# Altium integrated library Renesas Microcontroller H8S.IntLib: 670 symbols (part 3 of 70)
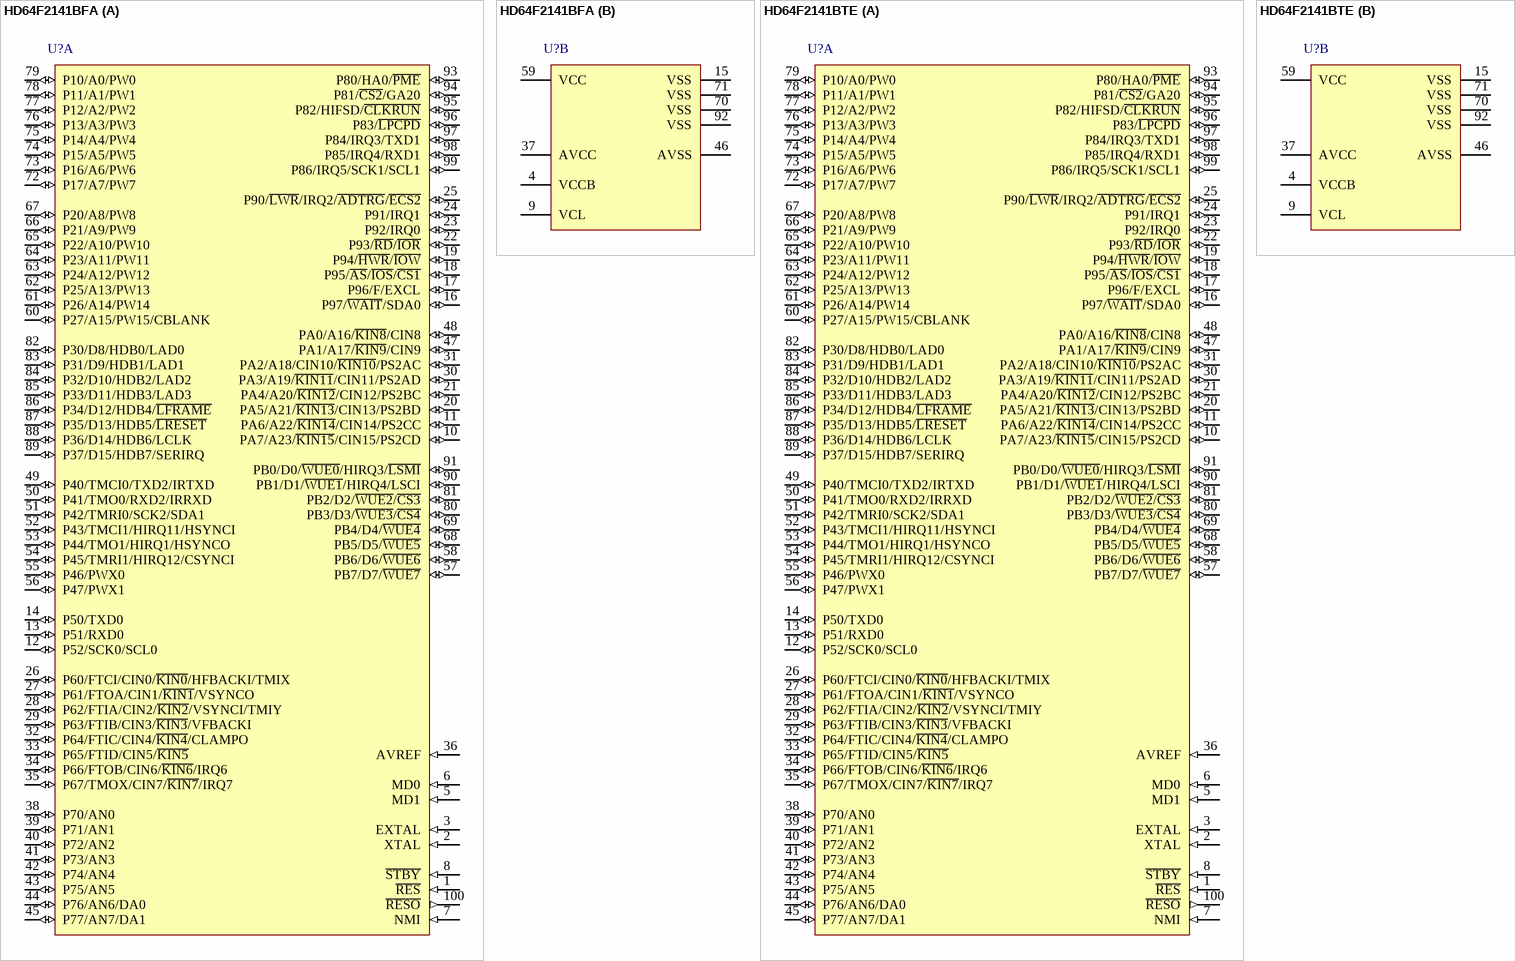
[diagram p246: symbols HD64F2141BFA to HD64F2141BTE]

## HD64F2141BTE
designator U?
Flash memory H8S/2100 Series, 2140B Group MCU, 128K ROM, 4K RAM, TFP-100B Pkg; Published: 28-Aug-2009; DatasheetVersion: Rev.3.00, Mar-2006; PackageVersion: Sep-2005; PackageReference: PTQP0100KA-A; Publisher: Altium Limited; PackageDescription: 100-Pin Plastic Thin Quad Flat Pack, 14 x 14 x 1.0 mm Body, 0.5 mm Pitch; Code_JEITA: P-TQFP100-14x14-0.50; ComponentLink1Description: Manufacturer Link; ComponentLink1URL: http://sg.renesas.com/fmwk.jsp?cnt=h8s_family_landing.jsp&fp=/products/mpumcu/h8s_family/; ComponentLink2Description: Datasheet; ComponentLink2URL: http://documentation.renesas.com/eng/products/mpumcu/rej09b0300_2140bhm.pdf; ComponentLink3Description: Packaging Specification; ComponentLink3URL: http://sg.renesas.com/media/products/common_info/package/pdf/ic/code/ptqp0100ka_a.pdf
footprint PTQP0100KA-A_N (Thin QFP, 100-Leads, Body 14x14mm, Pitch 0.5mm, IPC Medium Density)
footprint PTQP0100KA-A_L (Thin QFP, 100-Leads, Body 14x14mm, Pitch 0.5mm, IPC High Density)
footprint PTQP0100KA-A_M (Thin QFP, 100-Leads, Body 14x14mm, Pitch 0.5mm, IPC Low Density)
part A pins: 1 ~{RES} (in), 2 XTAL (in), 3 EXTAL (in), 5 MD1 (in), 6 MD0 (in), 7 NMI (in), 8 ~{STBY} (in), 10 PA7/A23/~{KIN15}/CIN15/PS2CD (io), 11 PA6/A22/~{KIN14}/CIN14/PS2CC (io), 12 P52/SCK0/SCL0 (io), 13 P51/RXD0 (io), 14 P50/TXD0 (io), 16 P97/~{WAIT}/SDA0 (io), 17 P96/F/EXCL (io), 18 P95/~{AS}/~{IOS}/~{CS1} (io), 19 P94/~{HWR}/~{IOW} (io), 20 PA5/A21/~{KIN13}/CIN13/PS2BD (io), 21 PA4/A20/~{KIN12}/CIN12/PS2BC (io), 22 P93/~{RD}/~{IOR} (io), 23 P92/IRQ0 (io), 24 P91/IRQ1 (io), 25 P90/~{LWR}/IRQ2/~{ADTRG}/~{ECS2} (io), 26 P60/FTCI/CIN0/~{KIN0}/HFBACKI/TMIX (io), 27 P61/FTOA/CIN1/~{KIN1}/VSYNCO (io), 28 P62/FTIA/CIN2/~{KIN2}/VSYNCI/TMIY (io), 29 P63/FTIB/CIN3/~{KIN3}/VFBACKI (io), 30 PA3/A19/~{KIN11}/CIN11/PS2AD (io), 31 PA2/A18/CIN10/~{KIN10}/PS2AC (io), 32 P64/FTIC/CIN4/~{KIN4}/CLAMPO (io), 33 P65/FTID/CIN5/~{KIN5} (io), 34 P66/FTOB/CIN6/~{KIN6}/IRQ6 (io), 35 P67/TMOX/CIN7/~{KIN7}/IRQ7 (io), 36 AVREF (in), 38 P70/AN0 (io), 39 P71/AN1 (io), 40 P72/AN2 (io), 41 P73/AN3 (io), 42 P74/AN4 (io), 43 P75/AN5 (io), 44 P76/AN6/DA0 (io), 45 P77/AN7/DA1 (io), 47 PA1/A17/~{KIN9}/CIN9 (io), 48 PA0/A16/~{KIN8}/CIN8 (io), 49 P40/TMCI0/TXD2/IRTXD (io), 50 P41/TMO0/RXD2/IRRXD (io), 51 P42/TMRI0/SCK2/SDA1 (io), 52 P43/TMCI1/HIRQ11/HSYNCI (io), 53 P44/TMO1/HIRQ1/HSYNCO (io), 54 P45/TMRI1/HIRQ12/CSYNCI (io), 55 P46/PWX0 (io), 56 P47/PWX1 (io), 57 PB7/D7/~{WUE7} (io), 58 PB6/D6/~{WUE6} (io), 60 P27/A15/PW15/CBLANK (io), 61 P26/A14/PW14 (io), 62 P25/A13/PW13 (io), 63 P24/A12/PW12 (io), 64 P23/A11/PW11 (io), 65 P22/A10/PW10 (io), 66 P21/A9/PW9 (io), 67 P20/A8/PW8 (io), 68 PB5/D5/~{WUE5} (io), 69 PB4/D4/~{WUE4} (io), 72 P17/A7/PW7 (io), 73 P16/A6/PW6 (io), 74 P15/A5/PW5 (io), 75 P14/A4/PW4 (io), 76 P13/A3/PW3 (io), 77 P12/A2/PW2 (io), 78 P11/A1/PW1 (io), 79 P10/A0/PW0 (io), 80 PB3/D3/~{WUE3}/~{CS4} (io), 81 PB2/D2/~{WUE2}/~{CS3} (io), 82 P30/D8/HDB0/LAD0 (io), 83 P31/D9/HDB1/LAD1 (io), 84 P32/D10/HDB2/LAD2 (io), 85 P33/D11/HDB3/LAD3 (io), 86 P34/D12/HDB4/~{LFRAME} (io), 87 P35/D13/HDB5/~{LRESET} (io), 88 P36/D14/HDB6/LCLK (io), 89 P37/D15/HDB7/SERIRQ (io), 90 PB1/D1/~{WUE1}/HIRQ4/LSCI (io), 91 PB0/D0/~{WUE0}/HIRQ3/~{LSMI} (io), 93 P80/HA0/~{PME} (io), 94 P81/~{CS2}/GA20 (io), 95 P82/HIFSD/~{CLKRUN} (io), 96 P83/~{LPCPD} (io), 97 P84/IRQ3/TXD1 (io), 98 P85/IRQ4/RXD1 (io), 99 P86/IRQ5/SCK1/SCL1 (io), 100 ~{RESO} (out)
part B pins: 4 VCCB (power), 9 VCL, 15 VSS (power), 37 AVCC (power), 46 AVSS (power), 59 VCC (power), 70 VSS (power), 71 VSS (power), 92 VSS (power)

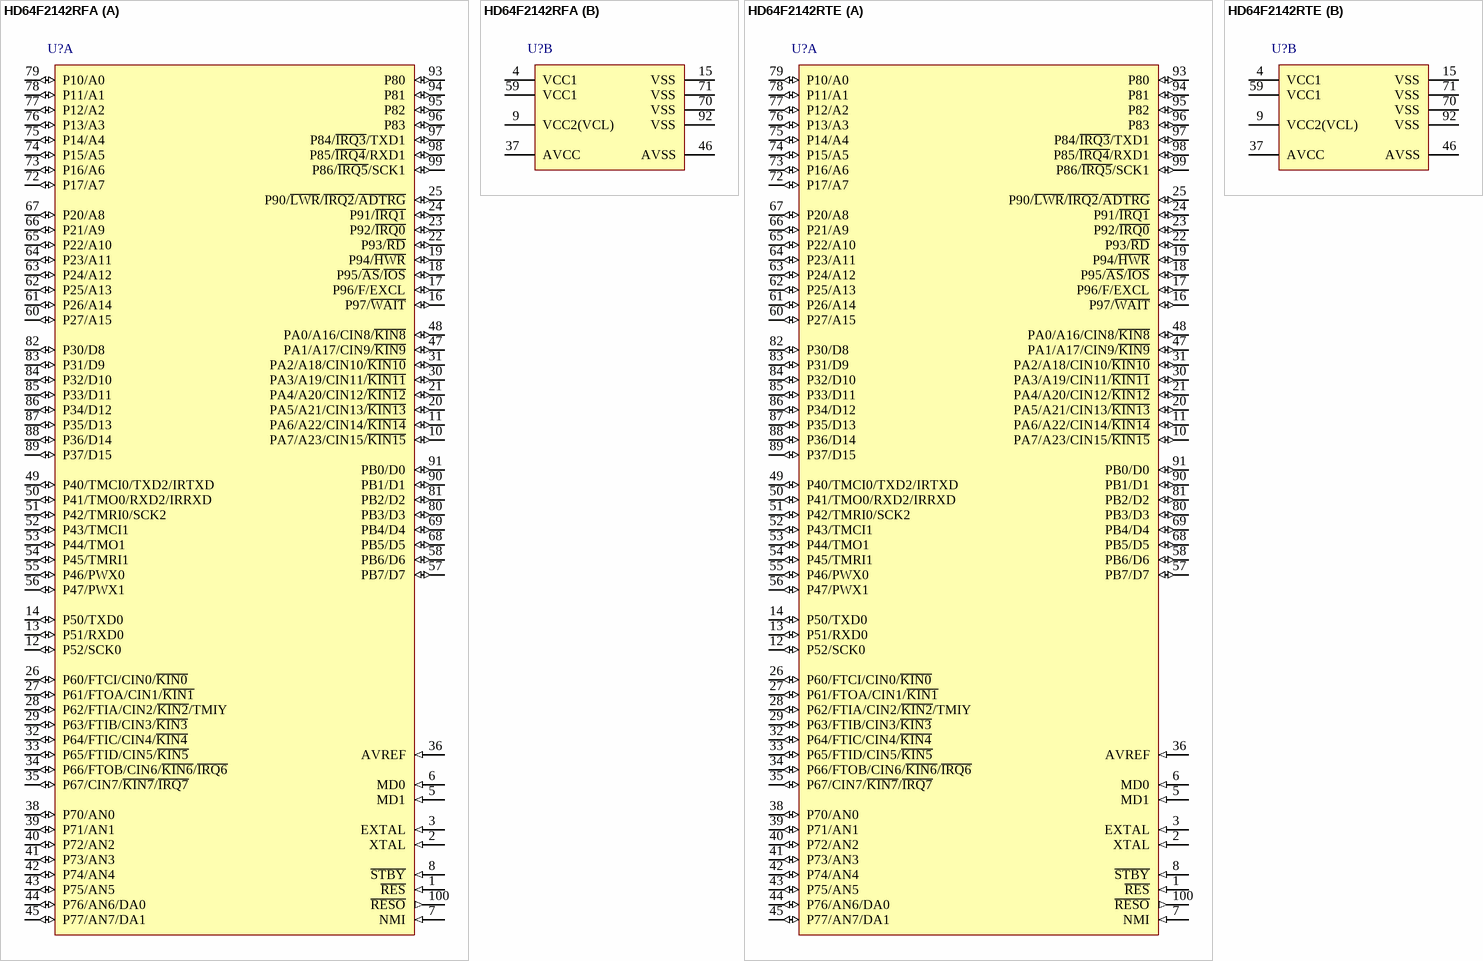
[diagram p8: symbols HD64F2142RFA to HD64F2142RTE]

## HD64F2142RFA
designator U?
Flash memory H8S/2100 Series, 2144 Group MCU, 64K ROM, 2K RAM, FP-100B Pkg; Published: 28-Aug-2009; DatasheetVersion: Rev.4.00, Sep-2006; PackageVersion: Sep-2009; PackageReference: PRQP0100KA-A; Publisher: Altium Limited; PackageDescription: 100-Pin Plastic Quad Flat Pack, 14 x 14 x 2.7 mm Body, 0.5 mm Pitch; Code_JEITA: P-QFP100-14x14-0.50; ComponentLink1Description: Manufacturer Link; ComponentLink1URL: http://sg.renesas.com/fmwk.jsp?cnt=h8s_family_landing.jsp&fp=/products/mpumcu/h8s_family/; ComponentLink2Description: Datasheet; ComponentLink2URL: http://documentation.renesas.com/eng/products/mpumcu/rej09b0327_2148hm.pdf; ComponentLink3Description: Packaging Specification; ComponentLink3URL: http://sg.renesas.com/media/products/common_info/package/pdf/ic/code/prqp0100ka_a.pdf
footprint PRQP0100KA-A_N (Shrink QFP, 100-Leads, Body 14x14mm, Pitch 0.5mm, IPC Medium Density)
footprint PRQP0100KA-A_L (Shrink QFP, 100-Leads, Body 14x14mm, Pitch 0.5mm, IPC High Density)
footprint PRQP0100KA-A_M (Shrink QFP, 100-Leads, Body 14x14mm, Pitch 0.5mm, IPC Low Density)
part A pins: 1 ~{RES} (in), 2 XTAL (in), 3 EXTAL (in), 5 MD1 (in), 6 MD0 (in), 7 NMI (in), 8 ~{STBY} (in), 10 PA7/A23/CIN15/~{KIN15} (io), 11 PA6/A22/CIN14/~{KIN14} (io), 12 P52/SCK0 (io), 13 P51/RXD0 (io), 14 P50/TXD0 (io), 16 P97/~{WAIT} (io), 17 P96/F/EXCL (io), 18 P95/~{AS}/~{IOS} (io), 19 P94/~{HWR} (io), 20 PA5/A21/CIN13/~{KIN13} (io), 21 PA4/A20/CIN12/~{KIN12} (io), 22 P93/~{RD} (io), 23 P92/~{IRQ0} (io), 24 P91/~{IRQ1} (io), 25 P90/~{LWR}/~{IRQ2}/~{ADTRG} (io), 26 P60/FTCI/CIN0/~{KIN0} (io), 27 P61/FTOA/CIN1/~{KIN1} (io), 28 P62/FTIA/CIN2/~{KIN2}/TMIY (io), 29 P63/FTIB/CIN3/~{KIN3} (io), 30 PA3/A19/CIN11/~{KIN11} (io), 31 PA2/A18/CIN10/~{KIN10} (io), 32 P64/FTIC/CIN4/~{KIN4} (io), 33 P65/FTID/CIN5/~{KIN5} (io), 34 P66/FTOB/CIN6/~{KIN6}/~{IRQ6} (io), 35 P67/CIN7/~{KIN7}/~{IRQ7} (io), 36 AVREF (in), 38 P70/AN0 (io), 39 P71/AN1 (io), 40 P72/AN2 (io), 41 P73/AN3 (io), 42 P74/AN4 (io), 43 P75/AN5 (io), 44 P76/AN6/DA0 (io), 45 P77/AN7/DA1 (io), 47 PA1/A17/CIN9/~{KIN9} (io), 48 PA0/A16/CIN8/~{KIN8} (io), 49 P40/TMCI0/TXD2/IRTXD (io), 50 P41/TMO0/RXD2/IRRXD (io), 51 P42/TMRI0/SCK2 (io), 52 P43/TMCI1 (io), 53 P44/TMO1 (io), 54 P45/TMRI1 (io), 55 P46/PWX0 (io), 56 P47/PWX1 (io), 57 PB7/D7 (io), 58 PB6/D6 (io), 60 P27/A15 (io), 61 P26/A14 (io), 62 P25/A13 (io), 63 P24/A12 (io), 64 P23/A11 (io), 65 P22/A10 (io), 66 P21/A9 (io), 67 P20/A8 (io), 68 PB5/D5 (io), 69 PB4/D4 (io), 72 P17/A7 (io), 73 P16/A6 (io), 74 P15/A5 (io), 75 P14/A4 (io), 76 P13/A3 (io), 77 P12/A2 (io), 78 P11/A1 (io), 79 P10/A0 (io), 80 PB3/D3 (io), 81 PB2/D2 (io), 82 P30/D8 (io), 83 P31/D9 (io), 84 P32/D10 (io), 85 P33/D11 (io), 86 P34/D12 (io), 87 P35/D13 (io), 88 P36/D14 (io), 89 P37/D15 (io), 90 PB1/D1 (io), 91 PB0/D0 (io), 93 P80 (io), 94 P81 (io), 95 P82 (io), 96 P83 (io), 97 P84/~{IRQ3}/TXD1 (io), 98 P85/~{IRQ4}/RXD1 (io), 99 P86/~{IRQ5}/SCK1 (io), 100 ~{RESO} (out)
part B pins: 4 VCC1 (power), 9 VCC2(VCL) (power), 15 VSS (power), 37 AVCC (power), 46 AVSS (power), 59 VCC1 (power), 70 VSS (power), 71 VSS (power), 92 VSS (power)

## HD64F2142RTE
designator U?
Flash memory H8S/2100 Series, 2144 Group MCU, 64K ROM, 2K RAM, TFP-100B Pkg; Published: 28-Aug-2009; DatasheetVersion: Rev.4.00, Sep-2006; PackageVersion: Sep-2005; PackageReference: PTQP0100KA-A; Publisher: Altium Limited; PackageDescription: 100-Pin Plastic Thin Quad Flat Pack, 14 x 14 x 1.0 mm Body, 0.5 mm Pitch; Code_JEITA: P-TQFP100-14x14-0.50; ComponentLink1Description: Manufacturer Link; ComponentLink1URL: http://sg.renesas.com/fmwk.jsp?cnt=h8s_family_landing.jsp&fp=/products/mpumcu/h8s_family/; ComponentLink2Description: Datasheet; ComponentLink2URL: http://documentation.renesas.com/eng/products/mpumcu/rej09b0327_2148hm.pdf; ComponentLink3Description: Packaging Specification; ComponentLink3URL: http://sg.renesas.com/media/products/common_info/package/pdf/ic/code/ptqp0100ka_a.pdf
footprint PTQP0100KA-A_N (Thin QFP, 100-Leads, Body 14x14mm, Pitch 0.5mm, IPC Medium Density)
footprint PTQP0100KA-A_L (Thin QFP, 100-Leads, Body 14x14mm, Pitch 0.5mm, IPC High Density)
footprint PTQP0100KA-A_M (Thin QFP, 100-Leads, Body 14x14mm, Pitch 0.5mm, IPC Low Density)
part A pins: 1 ~{RES} (in), 2 XTAL (in), 3 EXTAL (in), 5 MD1 (in), 6 MD0 (in), 7 NMI (in), 8 ~{STBY} (in), 10 PA7/A23/CIN15/~{KIN15} (io), 11 PA6/A22/CIN14/~{KIN14} (io), 12 P52/SCK0 (io), 13 P51/RXD0 (io), 14 P50/TXD0 (io), 16 P97/~{WAIT} (io), 17 P96/F/EXCL (io), 18 P95/~{AS}/~{IOS} (io), 19 P94/~{HWR} (io), 20 PA5/A21/CIN13/~{KIN13} (io), 21 PA4/A20/CIN12/~{KIN12} (io), 22 P93/~{RD} (io), 23 P92/~{IRQ0} (io), 24 P91/~{IRQ1} (io), 25 P90/~{LWR}/~{IRQ2}/~{ADTRG} (io), 26 P60/FTCI/CIN0/~{KIN0} (io), 27 P61/FTOA/CIN1/~{KIN1} (io), 28 P62/FTIA/CIN2/~{KIN2}/TMIY (io), 29 P63/FTIB/CIN3/~{KIN3} (io), 30 PA3/A19/CIN11/~{KIN11} (io), 31 PA2/A18/CIN10/~{KIN10} (io), 32 P64/FTIC/CIN4/~{KIN4} (io), 33 P65/FTID/CIN5/~{KIN5} (io), 34 P66/FTOB/CIN6/~{KIN6}/~{IRQ6} (io), 35 P67/CIN7/~{KIN7}/~{IRQ7} (io), 36 AVREF (in), 38 P70/AN0 (io), 39 P71/AN1 (io), 40 P72/AN2 (io), 41 P73/AN3 (io), 42 P74/AN4 (io), 43 P75/AN5 (io), 44 P76/AN6/DA0 (io), 45 P77/AN7/DA1 (io), 47 PA1/A17/CIN9/~{KIN9} (io), 48 PA0/A16/CIN8/~{KIN8} (io), 49 P40/TMCI0/TXD2/IRTXD (io), 50 P41/TMO0/RXD2/IRRXD (io), 51 P42/TMRI0/SCK2 (io), 52 P43/TMCI1 (io), 53 P44/TMO1 (io), 54 P45/TMRI1 (io), 55 P46/PWX0 (io), 56 P47/PWX1 (io), 57 PB7/D7 (io), 58 PB6/D6 (io), 60 P27/A15 (io), 61 P26/A14 (io), 62 P25/A13 (io), 63 P24/A12 (io), 64 P23/A11 (io), 65 P22/A10 (io), 66 P21/A9 (io), 67 P20/A8 (io), 68 PB5/D5 (io), 69 PB4/D4 (io), 72 P17/A7 (io), 73 P16/A6 (io), 74 P15/A5 (io), 75 P14/A4 (io), 76 P13/A3 (io), 77 P12/A2 (io), 78 P11/A1 (io), 79 P10/A0 (io), 80 PB3/D3 (io), 81 PB2/D2 (io), 82 P30/D8 (io), 83 P31/D9 (io), 84 P32/D10 (io), 85 P33/D11 (io), 86 P34/D12 (io), 87 P35/D13 (io), 88 P36/D14 (io), 89 P37/D15 (io), 90 PB1/D1 (io), 91 PB0/D0 (io), 93 P80 (io), 94 P81 (io), 95 P82 (io), 96 P83 (io), 97 P84/~{IRQ3}/TXD1 (io), 98 P85/~{IRQ4}/RXD1 (io), 99 P86/~{IRQ5}/SCK1 (io), 100 ~{RESO} (out)
part B pins: 4 VCC1 (power), 9 VCC2(VCL) (power), 15 VSS (power), 37 AVCC (power), 46 AVSS (power), 59 VCC1 (power), 70 VSS (power), 71 VSS (power), 92 VSS (power)

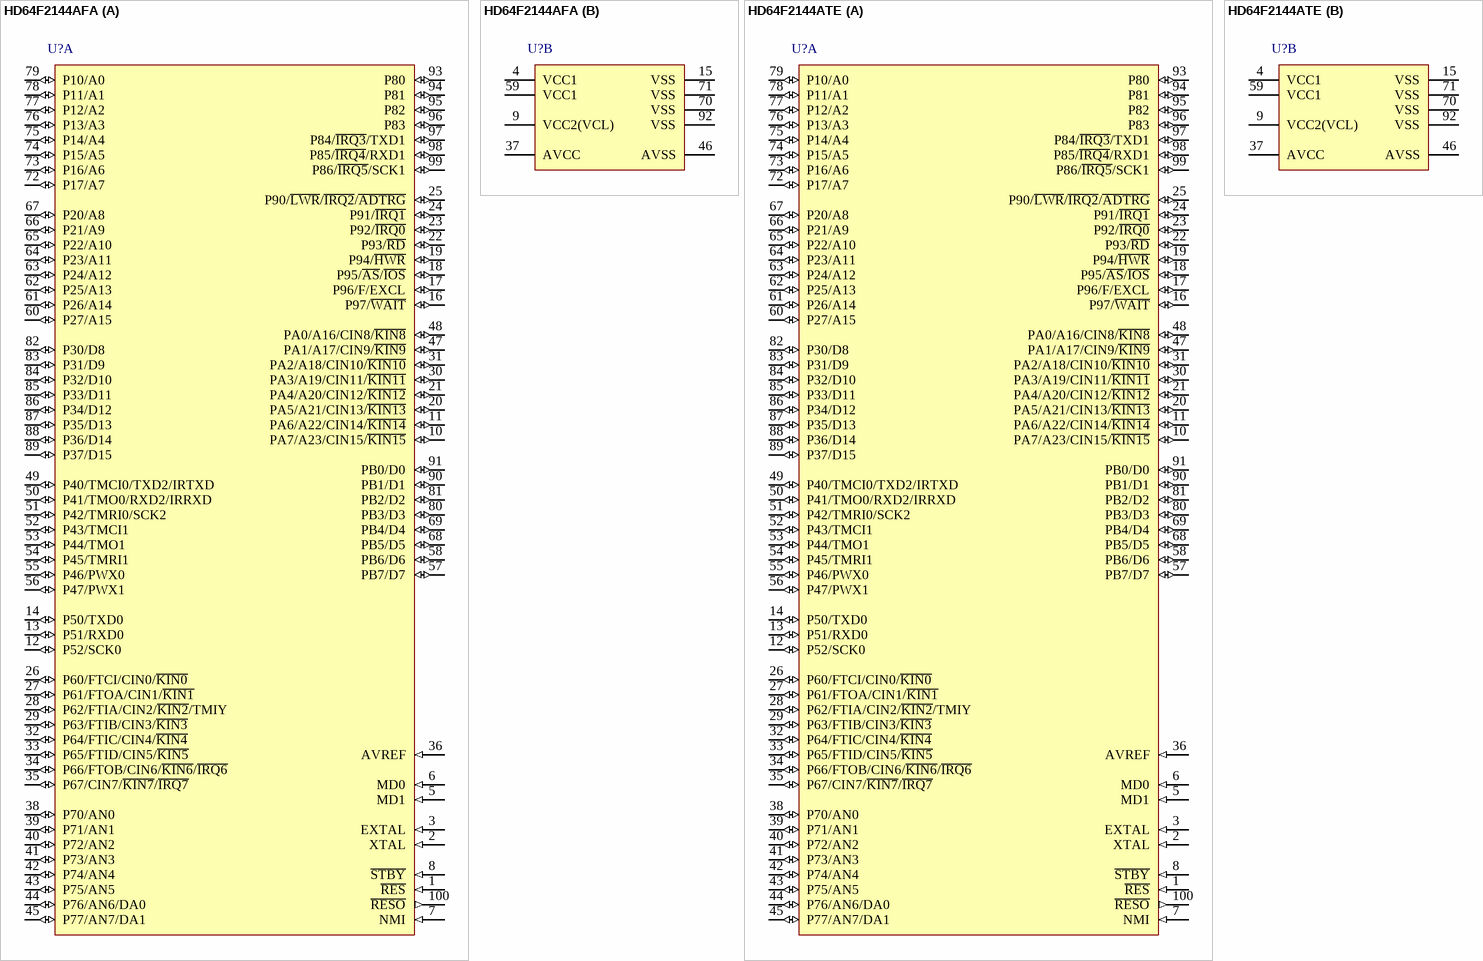
[diagram p9: symbols HD64F2144AFA to HD64F2144ATE]

## HD64F2144AFA
designator U?
Flash memory H8S/2100 Series, 2144 Group MCU, 128K ROM, 4K RAM, FP-100B Pkg; Published: 28-Aug-2009; DatasheetVersion: Rev.4.00, Sep-2006; PackageVersion: Sep-2009; PackageReference: PRQP0100KA-A; Publisher: Altium Limited; PackageDescription: 100-Pin Plastic Quad Flat Pack, 14 x 14 x 2.7 mm Body, 0.5 mm Pitch; Code_JEITA: P-QFP100-14x14-0.50; ComponentLink1Description: Manufacturer Link; ComponentLink1URL: http://sg.renesas.com/fmwk.jsp?cnt=h8s_family_landing.jsp&fp=/products/mpumcu/h8s_family/; ComponentLink2Description: Datasheet; ComponentLink2URL: http://documentation.renesas.com/eng/products/mpumcu/rej09b0327_2148hm.pdf; ComponentLink3Description: Packaging Specification; ComponentLink3URL: http://sg.renesas.com/media/products/common_info/package/pdf/ic/code/prqp0100ka_a.pdf
footprint PRQP0100KA-A_N (Shrink QFP, 100-Leads, Body 14x14mm, Pitch 0.5mm, IPC Medium Density)
footprint PRQP0100KA-A_L (Shrink QFP, 100-Leads, Body 14x14mm, Pitch 0.5mm, IPC High Density)
footprint PRQP0100KA-A_M (Shrink QFP, 100-Leads, Body 14x14mm, Pitch 0.5mm, IPC Low Density)
part A pins: 1 ~{RES} (in), 2 XTAL (in), 3 EXTAL (in), 5 MD1 (in), 6 MD0 (in), 7 NMI (in), 8 ~{STBY} (in), 10 PA7/A23/CIN15/~{KIN15} (io), 11 PA6/A22/CIN14/~{KIN14} (io), 12 P52/SCK0 (io), 13 P51/RXD0 (io), 14 P50/TXD0 (io), 16 P97/~{WAIT} (io), 17 P96/F/EXCL (io), 18 P95/~{AS}/~{IOS} (io), 19 P94/~{HWR} (io), 20 PA5/A21/CIN13/~{KIN13} (io), 21 PA4/A20/CIN12/~{KIN12} (io), 22 P93/~{RD} (io), 23 P92/~{IRQ0} (io), 24 P91/~{IRQ1} (io), 25 P90/~{LWR}/~{IRQ2}/~{ADTRG} (io), 26 P60/FTCI/CIN0/~{KIN0} (io), 27 P61/FTOA/CIN1/~{KIN1} (io), 28 P62/FTIA/CIN2/~{KIN2}/TMIY (io), 29 P63/FTIB/CIN3/~{KIN3} (io), 30 PA3/A19/CIN11/~{KIN11} (io), 31 PA2/A18/CIN10/~{KIN10} (io), 32 P64/FTIC/CIN4/~{KIN4} (io), 33 P65/FTID/CIN5/~{KIN5} (io), 34 P66/FTOB/CIN6/~{KIN6}/~{IRQ6} (io), 35 P67/CIN7/~{KIN7}/~{IRQ7} (io), 36 AVREF (in), 38 P70/AN0 (io), 39 P71/AN1 (io), 40 P72/AN2 (io), 41 P73/AN3 (io), 42 P74/AN4 (io), 43 P75/AN5 (io), 44 P76/AN6/DA0 (io), 45 P77/AN7/DA1 (io), 47 PA1/A17/CIN9/~{KIN9} (io), 48 PA0/A16/CIN8/~{KIN8} (io), 49 P40/TMCI0/TXD2/IRTXD (io), 50 P41/TMO0/RXD2/IRRXD (io), 51 P42/TMRI0/SCK2 (io), 52 P43/TMCI1 (io), 53 P44/TMO1 (io), 54 P45/TMRI1 (io), 55 P46/PWX0 (io), 56 P47/PWX1 (io), 57 PB7/D7 (io), 58 PB6/D6 (io), 60 P27/A15 (io), 61 P26/A14 (io), 62 P25/A13 (io), 63 P24/A12 (io), 64 P23/A11 (io), 65 P22/A10 (io), 66 P21/A9 (io), 67 P20/A8 (io), 68 PB5/D5 (io), 69 PB4/D4 (io), 72 P17/A7 (io), 73 P16/A6 (io), 74 P15/A5 (io), 75 P14/A4 (io), 76 P13/A3 (io), 77 P12/A2 (io), 78 P11/A1 (io), 79 P10/A0 (io), 80 PB3/D3 (io), 81 PB2/D2 (io), 82 P30/D8 (io), 83 P31/D9 (io), 84 P32/D10 (io), 85 P33/D11 (io), 86 P34/D12 (io), 87 P35/D13 (io), 88 P36/D14 (io), 89 P37/D15 (io), 90 PB1/D1 (io), 91 PB0/D0 (io), 93 P80 (io), 94 P81 (io), 95 P82 (io), 96 P83 (io), 97 P84/~{IRQ3}/TXD1 (io), 98 P85/~{IRQ4}/RXD1 (io), 99 P86/~{IRQ5}/SCK1 (io), 100 ~{RESO} (out)
part B pins: 4 VCC1 (power), 9 VCC2(VCL) (power), 15 VSS (power), 37 AVCC (power), 46 AVSS (power), 59 VCC1 (power), 70 VSS (power), 71 VSS (power), 92 VSS (power)

## HD64F2144ATE
designator U?
Flash memory H8S/2100 Series, 2144 Group MCU, 128K ROM, 4K RAM, TFP-100B Pkg; Published: 28-Aug-2009; DatasheetVersion: Rev.4.00, Sep-2006; PackageVersion: Sep-2005; PackageReference: PTQP0100KA-A; Publisher: Altium Limited; PackageDescription: 100-Pin Plastic Thin Quad Flat Pack, 14 x 14 x 1.0 mm Body, 0.5 mm Pitch; Code_JEITA: P-TQFP100-14x14-0.50; ComponentLink1Description: Manufacturer Link; ComponentLink1URL: http://sg.renesas.com/fmwk.jsp?cnt=h8s_family_landing.jsp&fp=/products/mpumcu/h8s_family/; ComponentLink2Description: Datasheet; ComponentLink2URL: http://documentation.renesas.com/eng/products/mpumcu/rej09b0327_2148hm.pdf; ComponentLink3Description: Packaging Specification; ComponentLink3URL: http://sg.renesas.com/media/products/common_info/package/pdf/ic/code/ptqp0100ka_a.pdf
footprint PTQP0100KA-A_N (Thin QFP, 100-Leads, Body 14x14mm, Pitch 0.5mm, IPC Medium Density)
footprint PTQP0100KA-A_L (Thin QFP, 100-Leads, Body 14x14mm, Pitch 0.5mm, IPC High Density)
footprint PTQP0100KA-A_M (Thin QFP, 100-Leads, Body 14x14mm, Pitch 0.5mm, IPC Low Density)
part A pins: 1 ~{RES} (in), 2 XTAL (in), 3 EXTAL (in), 5 MD1 (in), 6 MD0 (in), 7 NMI (in), 8 ~{STBY} (in), 10 PA7/A23/CIN15/~{KIN15} (io), 11 PA6/A22/CIN14/~{KIN14} (io), 12 P52/SCK0 (io), 13 P51/RXD0 (io), 14 P50/TXD0 (io), 16 P97/~{WAIT} (io), 17 P96/F/EXCL (io), 18 P95/~{AS}/~{IOS} (io), 19 P94/~{HWR} (io), 20 PA5/A21/CIN13/~{KIN13} (io), 21 PA4/A20/CIN12/~{KIN12} (io), 22 P93/~{RD} (io), 23 P92/~{IRQ0} (io), 24 P91/~{IRQ1} (io), 25 P90/~{LWR}/~{IRQ2}/~{ADTRG} (io), 26 P60/FTCI/CIN0/~{KIN0} (io), 27 P61/FTOA/CIN1/~{KIN1} (io), 28 P62/FTIA/CIN2/~{KIN2}/TMIY (io), 29 P63/FTIB/CIN3/~{KIN3} (io), 30 PA3/A19/CIN11/~{KIN11} (io), 31 PA2/A18/CIN10/~{KIN10} (io), 32 P64/FTIC/CIN4/~{KIN4} (io), 33 P65/FTID/CIN5/~{KIN5} (io), 34 P66/FTOB/CIN6/~{KIN6}/~{IRQ6} (io), 35 P67/CIN7/~{KIN7}/~{IRQ7} (io), 36 AVREF (in), 38 P70/AN0 (io), 39 P71/AN1 (io), 40 P72/AN2 (io), 41 P73/AN3 (io), 42 P74/AN4 (io), 43 P75/AN5 (io), 44 P76/AN6/DA0 (io), 45 P77/AN7/DA1 (io), 47 PA1/A17/CIN9/~{KIN9} (io), 48 PA0/A16/CIN8/~{KIN8} (io), 49 P40/TMCI0/TXD2/IRTXD (io), 50 P41/TMO0/RXD2/IRRXD (io), 51 P42/TMRI0/SCK2 (io), 52 P43/TMCI1 (io), 53 P44/TMO1 (io), 54 P45/TMRI1 (io), 55 P46/PWX0 (io), 56 P47/PWX1 (io), 57 PB7/D7 (io), 58 PB6/D6 (io), 60 P27/A15 (io), 61 P26/A14 (io), 62 P25/A13 (io), 63 P24/A12 (io), 64 P23/A11 (io), 65 P22/A10 (io), 66 P21/A9 (io), 67 P20/A8 (io), 68 PB5/D5 (io), 69 PB4/D4 (io), 72 P17/A7 (io), 73 P16/A6 (io), 74 P15/A5 (io), 75 P14/A4 (io), 76 P13/A3 (io), 77 P12/A2 (io), 78 P11/A1 (io), 79 P10/A0 (io), 80 PB3/D3 (io), 81 PB2/D2 (io), 82 P30/D8 (io), 83 P31/D9 (io), 84 P32/D10 (io), 85 P33/D11 (io), 86 P34/D12 (io), 87 P35/D13 (io), 88 P36/D14 (io), 89 P37/D15 (io), 90 PB1/D1 (io), 91 PB0/D0 (io), 93 P80 (io), 94 P81 (io), 95 P82 (io), 96 P83 (io), 97 P84/~{IRQ3}/TXD1 (io), 98 P85/~{IRQ4}/RXD1 (io), 99 P86/~{IRQ5}/SCK1 (io), 100 ~{RESO} (out)
part B pins: 4 VCC1 (power), 9 VCC2(VCL) (power), 15 VSS (power), 37 AVCC (power), 46 AVSS (power), 59 VCC1 (power), 70 VSS (power), 71 VSS (power), 92 VSS (power)

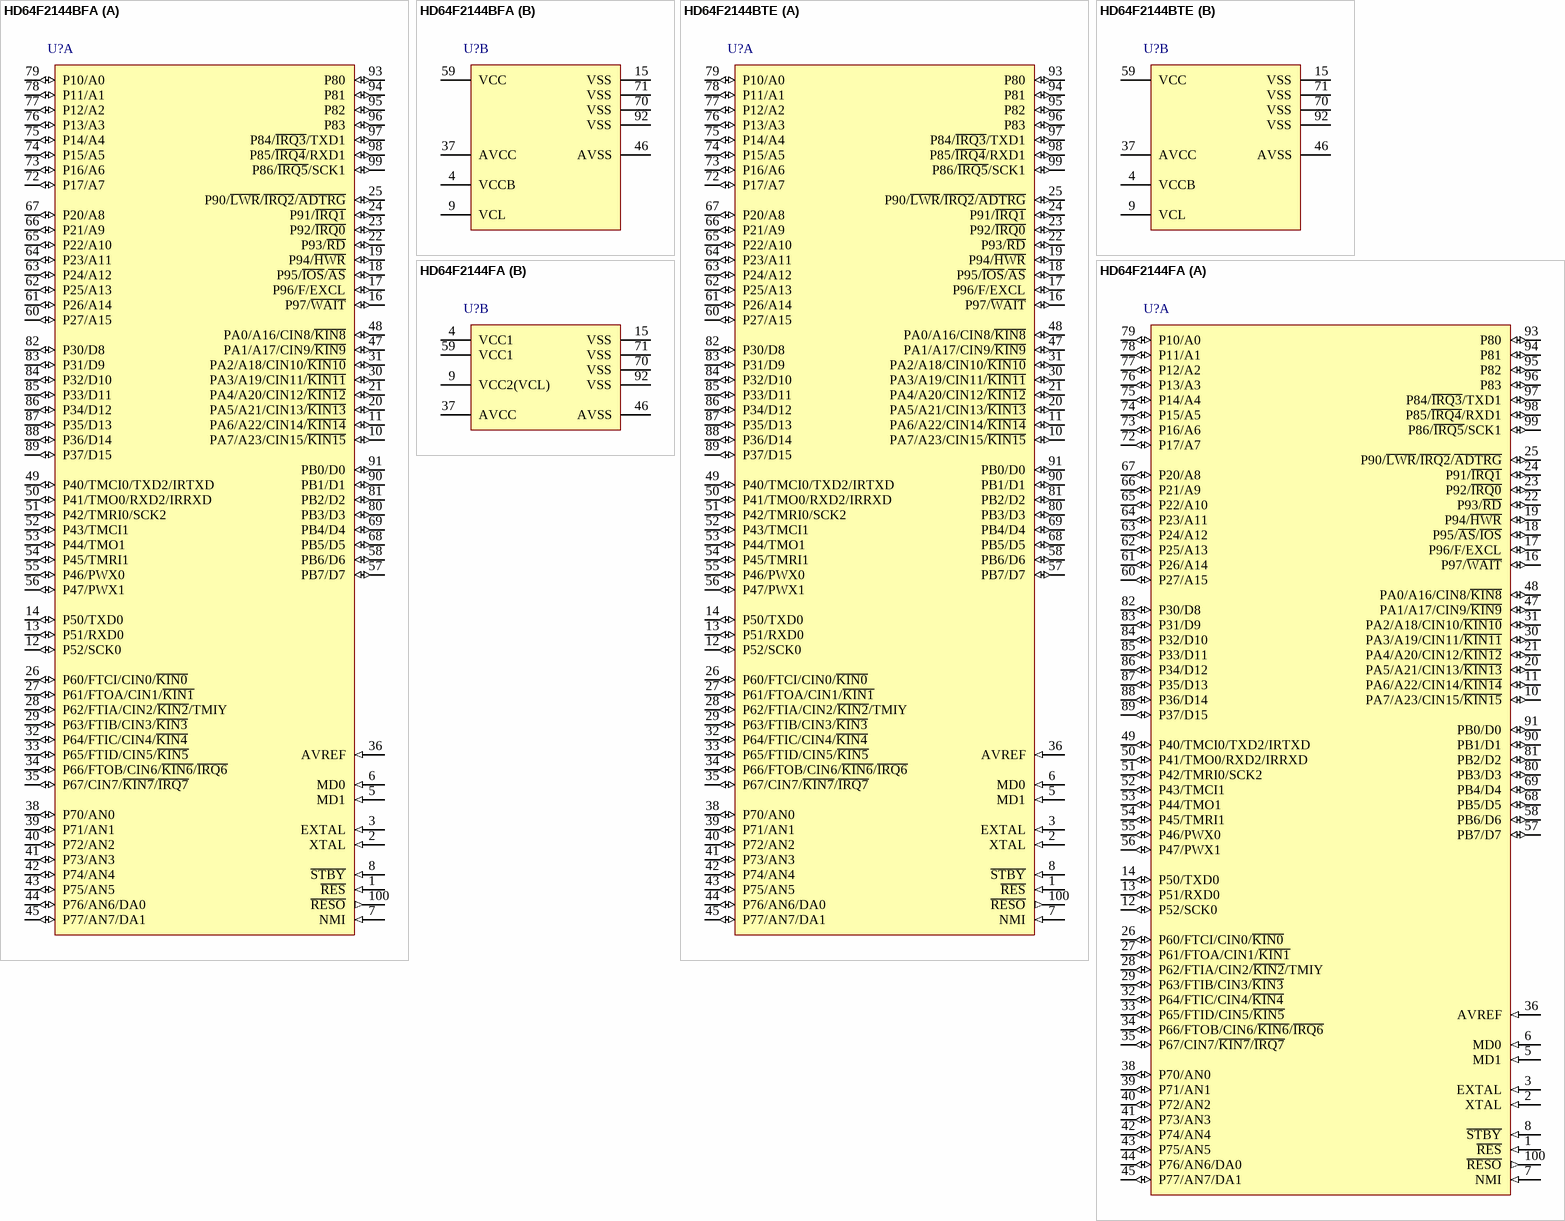
[diagram p10: symbols HD64F2144BFA to HD64F2144FA]

## HD64F2144BFA
designator U?
Flash memory H8S/2100 Series, 2144B Group MCU, 128K ROM, 4K RAM, FP-100B Pkg; Published: 28-Aug-2009; DatasheetVersion: Rev.1.00, Jun-2005; PackageVersion: Sep-2009; PackageReference: PRQP0100KA-A; Publisher: Altium Limited; PackageDescription: 100-Pin Plastic Quad Flat Pack, 14 x 14 x 2.7 mm Body, 0.5 mm Pitch; Code_JEITA: P-QFP100-14x14-0.50; ComponentLink1Description: Manufacturer Link; ComponentLink1URL: http://sg.renesas.com/fmwk.jsp?cnt=h8s_family_landing.jsp&fp=/products/mpumcu/h8s_family/; ComponentLink2Description: Datasheet; ComponentLink2URL: http://documentation.renesas.com/eng/products/mpumcu/rej09b0241_h8s2144b.pdf; ComponentLink3Description: Packaging Specification; ComponentLink3URL: http://sg.renesas.com/media/products/common_info/package/pdf/ic/code/prqp0100ka_a.pdf
footprint PRQP0100KA-A_N (Shrink QFP, 100-Leads, Body 14x14mm, Pitch 0.5mm, IPC Medium Density)
footprint PRQP0100KA-A_L (Shrink QFP, 100-Leads, Body 14x14mm, Pitch 0.5mm, IPC High Density)
footprint PRQP0100KA-A_M (Shrink QFP, 100-Leads, Body 14x14mm, Pitch 0.5mm, IPC Low Density)
part A pins: 1 ~{RES} (in), 2 XTAL (in), 3 EXTAL (in), 5 MD1 (in), 6 MD0 (in), 7 NMI (in), 8 ~{STBY} (in), 10 PA7/A23/CIN15/~{KIN15} (io), 11 PA6/A22/CIN14/~{KIN14} (io), 12 P52/SCK0 (io), 13 P51/RXD0 (io), 14 P50/TXD0 (io), 16 P97/~{WAIT} (io), 17 P96/F/EXCL (io), 18 P95/~{IOS}/~{AS} (io), 19 P94/~{HWR} (io), 20 PA5/A21/CIN13/~{KIN13} (io), 21 PA4/A20/CIN12/~{KIN12} (io), 22 P93/~{RD} (io), 23 P92/~{IRQ0} (io), 24 P91/~{IRQ1} (io), 25 P90/~{LWR}/~{IRQ2}/~{ADTRG} (io), 26 P60/FTCI/CIN0/~{KIN0} (io), 27 P61/FTOA/CIN1/~{KIN1} (io), 28 P62/FTIA/CIN2/~{KIN2}/TMIY (io), 29 P63/FTIB/CIN3/~{KIN3} (io), 30 PA3/A19/CIN11/~{KIN11} (io), 31 PA2/A18/CIN10/~{KIN10} (io), 32 P64/FTIC/CIN4/~{KIN4} (io), 33 P65/FTID/CIN5/~{KIN5} (io), 34 P66/FTOB/CIN6/~{KIN6}/~{IRQ6} (io), 35 P67/CIN7/~{KIN7}/~{IRQ7} (io), 36 AVREF (in), 38 P70/AN0 (io), 39 P71/AN1 (io), 40 P72/AN2 (io), 41 P73/AN3 (io), 42 P74/AN4 (io), 43 P75/AN5 (io), 44 P76/AN6/DA0 (io), 45 P77/AN7/DA1 (io), 47 PA1/A17/CIN9/~{KIN9} (io), 48 PA0/A16/CIN8/~{KIN8} (io), 49 P40/TMCI0/TXD2/IRTXD (io), 50 P41/TMO0/RXD2/IRRXD (io), 51 P42/TMRI0/SCK2 (io), 52 P43/TMCI1 (io), 53 P44/TMO1 (io), 54 P45/TMRI1 (io), 55 P46/PWX0 (io), 56 P47/PWX1 (io), 57 PB7/D7 (io), 58 PB6/D6 (io), 60 P27/A15 (io), 61 P26/A14 (io), 62 P25/A13 (io), 63 P24/A12 (io), 64 P23/A11 (io), 65 P22/A10 (io), 66 P21/A9 (io), 67 P20/A8 (io), 68 PB5/D5 (io), 69 PB4/D4 (io), 72 P17/A7 (io), 73 P16/A6 (io), 74 P15/A5 (io), 75 P14/A4 (io), 76 P13/A3 (io), 77 P12/A2 (io), 78 P11/A1 (io), 79 P10/A0 (io), 80 PB3/D3 (io), 81 PB2/D2 (io), 82 P30/D8 (io), 83 P31/D9 (io), 84 P32/D10 (io), 85 P33/D11 (io), 86 P34/D12 (io), 87 P35/D13 (io), 88 P36/D14 (io), 89 P37/D15 (io), 90 PB1/D1 (io), 91 PB0/D0 (io), 93 P80 (io), 94 P81 (io), 95 P82 (io), 96 P83 (io), 97 P84/~{IRQ3}/TXD1 (io), 98 P85/~{IRQ4}/RXD1 (io), 99 P86/~{IRQ5}/SCK1 (io), 100 ~{RESO} (out)
part B pins: 4 VCCB (power), 9 VCL, 15 VSS (power), 37 AVCC (power), 46 AVSS (power), 59 VCC (power), 70 VSS (power), 71 VSS (power), 92 VSS (power)

## HD64F2144BTE
designator U?
Flash memory H8S/2100 Series, 2144B Group MCU, 128K ROM, 4K RAM, TFP-100B Pkg; Published: 28-Aug-2009; DatasheetVersion: Rev.1.00, Jun-2005; PackageVersion: Sep-2005; PackageReference: PTQP0100KA-A; Publisher: Altium Limited; PackageDescription: 100-Pin Plastic Thin Quad Flat Pack, 14 x 14 x 1.0 mm Body, 0.5 mm Pitch; Code_JEITA: P-TQFP100-14x14-0.50; ComponentLink1Description: Manufacturer Link; ComponentLink1URL: http://sg.renesas.com/fmwk.jsp?cnt=h8s_family_landing.jsp&fp=/products/mpumcu/h8s_family/; ComponentLink2Description: Datasheet; ComponentLink2URL: http://documentation.renesas.com/eng/products/mpumcu/rej09b0241_h8s2144b.pdf; ComponentLink3Description: Packaging Specification; ComponentLink3URL: http://sg.renesas.com/media/products/common_info/package/pdf/ic/code/ptqp0100ka_a.pdf
footprint PTQP0100KA-A_N (Thin QFP, 100-Leads, Body 14x14mm, Pitch 0.5mm, IPC Medium Density)
footprint PTQP0100KA-A_L (Thin QFP, 100-Leads, Body 14x14mm, Pitch 0.5mm, IPC High Density)
footprint PTQP0100KA-A_M (Thin QFP, 100-Leads, Body 14x14mm, Pitch 0.5mm, IPC Low Density)
part A pins: 1 ~{RES} (in), 2 XTAL (in), 3 EXTAL (in), 5 MD1 (in), 6 MD0 (in), 7 NMI (in), 8 ~{STBY} (in), 10 PA7/A23/CIN15/~{KIN15} (io), 11 PA6/A22/CIN14/~{KIN14} (io), 12 P52/SCK0 (io), 13 P51/RXD0 (io), 14 P50/TXD0 (io), 16 P97/~{WAIT} (io), 17 P96/F/EXCL (io), 18 P95/~{IOS}/~{AS} (io), 19 P94/~{HWR} (io), 20 PA5/A21/CIN13/~{KIN13} (io), 21 PA4/A20/CIN12/~{KIN12} (io), 22 P93/~{RD} (io), 23 P92/~{IRQ0} (io), 24 P91/~{IRQ1} (io), 25 P90/~{LWR}/~{IRQ2}/~{ADTRG} (io), 26 P60/FTCI/CIN0/~{KIN0} (io), 27 P61/FTOA/CIN1/~{KIN1} (io), 28 P62/FTIA/CIN2/~{KIN2}/TMIY (io), 29 P63/FTIB/CIN3/~{KIN3} (io), 30 PA3/A19/CIN11/~{KIN11} (io), 31 PA2/A18/CIN10/~{KIN10} (io), 32 P64/FTIC/CIN4/~{KIN4} (io), 33 P65/FTID/CIN5/~{KIN5} (io), 34 P66/FTOB/CIN6/~{KIN6}/~{IRQ6} (io), 35 P67/CIN7/~{KIN7}/~{IRQ7} (io), 36 AVREF (in), 38 P70/AN0 (io), 39 P71/AN1 (io), 40 P72/AN2 (io), 41 P73/AN3 (io), 42 P74/AN4 (io), 43 P75/AN5 (io), 44 P76/AN6/DA0 (io), 45 P77/AN7/DA1 (io), 47 PA1/A17/CIN9/~{KIN9} (io), 48 PA0/A16/CIN8/~{KIN8} (io), 49 P40/TMCI0/TXD2/IRTXD (io), 50 P41/TMO0/RXD2/IRRXD (io), 51 P42/TMRI0/SCK2 (io), 52 P43/TMCI1 (io), 53 P44/TMO1 (io), 54 P45/TMRI1 (io), 55 P46/PWX0 (io), 56 P47/PWX1 (io), 57 PB7/D7 (io), 58 PB6/D6 (io), 60 P27/A15 (io), 61 P26/A14 (io), 62 P25/A13 (io), 63 P24/A12 (io), 64 P23/A11 (io), 65 P22/A10 (io), 66 P21/A9 (io), 67 P20/A8 (io), 68 PB5/D5 (io), 69 PB4/D4 (io), 72 P17/A7 (io), 73 P16/A6 (io), 74 P15/A5 (io), 75 P14/A4 (io), 76 P13/A3 (io), 77 P12/A2 (io), 78 P11/A1 (io), 79 P10/A0 (io), 80 PB3/D3 (io), 81 PB2/D2 (io), 82 P30/D8 (io), 83 P31/D9 (io), 84 P32/D10 (io), 85 P33/D11 (io), 86 P34/D12 (io), 87 P35/D13 (io), 88 P36/D14 (io), 89 P37/D15 (io), 90 PB1/D1 (io), 91 PB0/D0 (io), 93 P80 (io), 94 P81 (io), 95 P82 (io), 96 P83 (io), 97 P84/~{IRQ3}/TXD1 (io), 98 P85/~{IRQ4}/RXD1 (io), 99 P86/~{IRQ5}/SCK1 (io), 100 ~{RESO} (out)
part B pins: 4 VCCB (power), 9 VCL, 15 VSS (power), 37 AVCC (power), 46 AVSS (power), 59 VCC (power), 70 VSS (power), 71 VSS (power), 92 VSS (power)

## HD64F2144FA
designator U?
Flash memory H8S/2100 Series, 2144 Group MCU, 128K ROM, 4K RAM, FP-100B Pkg; Published: 28-Aug-2009; DatasheetVersion: Rev.4.00, Sep-2006; PackageVersion: Sep-2009; PackageReference: PRQP0100KA-A; Publisher: Altium Limited; PackageDescription: 100-Pin Plastic Quad Flat Pack, 14 x 14 x 2.7 mm Body, 0.5 mm Pitch; Code_JEITA: P-QFP100-14x14-0.50; ComponentLink1Description: Manufacturer Link; ComponentLink1URL: http://sg.renesas.com/fmwk.jsp?cnt=h8s_family_landing.jsp&fp=/products/mpumcu/h8s_family/; ComponentLink2Description: Datasheet; ComponentLink2URL: http://documentation.renesas.com/eng/products/mpumcu/rej09b0327_2148hm.pdf; ComponentLink3Description: Packaging Specification; ComponentLink3URL: http://sg.renesas.com/media/products/common_info/package/pdf/ic/code/prqp0100ka_a.pdf
footprint PRQP0100KA-A_N (Shrink QFP, 100-Leads, Body 14x14mm, Pitch 0.5mm, IPC Medium Density)
footprint PRQP0100KA-A_L (Shrink QFP, 100-Leads, Body 14x14mm, Pitch 0.5mm, IPC High Density)
footprint PRQP0100KA-A_M (Shrink QFP, 100-Leads, Body 14x14mm, Pitch 0.5mm, IPC Low Density)
part A pins: 1 ~{RES} (in), 2 XTAL (in), 3 EXTAL (in), 5 MD1 (in), 6 MD0 (in), 7 NMI (in), 8 ~{STBY} (in), 10 PA7/A23/CIN15/~{KIN15} (io), 11 PA6/A22/CIN14/~{KIN14} (io), 12 P52/SCK0 (io), 13 P51/RXD0 (io), 14 P50/TXD0 (io), 16 P97/~{WAIT} (io), 17 P96/F/EXCL (io), 18 P95/~{AS}/~{IOS} (io), 19 P94/~{HWR} (io), 20 PA5/A21/CIN13/~{KIN13} (io), 21 PA4/A20/CIN12/~{KIN12} (io), 22 P93/~{RD} (io), 23 P92/~{IRQ0} (io), 24 P91/~{IRQ1} (io), 25 P90/~{LWR}/~{IRQ2}/~{ADTRG} (io), 26 P60/FTCI/CIN0/~{KIN0} (io), 27 P61/FTOA/CIN1/~{KIN1} (io), 28 P62/FTIA/CIN2/~{KIN2}/TMIY (io), 29 P63/FTIB/CIN3/~{KIN3} (io), 30 PA3/A19/CIN11/~{KIN11} (io), 31 PA2/A18/CIN10/~{KIN10} (io), 32 P64/FTIC/CIN4/~{KIN4} (io), 33 P65/FTID/CIN5/~{KIN5} (io), 34 P66/FTOB/CIN6/~{KIN6}/~{IRQ6} (io), 35 P67/CIN7/~{KIN7}/~{IRQ7} (io), 36 AVREF (in), 38 P70/AN0 (io), 39 P71/AN1 (io), 40 P72/AN2 (io), 41 P73/AN3 (io), 42 P74/AN4 (io), 43 P75/AN5 (io), 44 P76/AN6/DA0 (io), 45 P77/AN7/DA1 (io), 47 PA1/A17/CIN9/~{KIN9} (io), 48 PA0/A16/CIN8/~{KIN8} (io), 49 P40/TMCI0/TXD2/IRTXD (io), 50 P41/TMO0/RXD2/IRRXD (io), 51 P42/TMRI0/SCK2 (io), 52 P43/TMCI1 (io), 53 P44/TMO1 (io), 54 P45/TMRI1 (io), 55 P46/PWX0 (io), 56 P47/PWX1 (io), 57 PB7/D7 (io), 58 PB6/D6 (io), 60 P27/A15 (io), 61 P26/A14 (io), 62 P25/A13 (io), 63 P24/A12 (io), 64 P23/A11 (io), 65 P22/A10 (io), 66 P21/A9 (io), 67 P20/A8 (io), 68 PB5/D5 (io), 69 PB4/D4 (io), 72 P17/A7 (io), 73 P16/A6 (io), 74 P15/A5 (io), 75 P14/A4 (io), 76 P13/A3 (io), 77 P12/A2 (io), 78 P11/A1 (io), 79 P10/A0 (io), 80 PB3/D3 (io), 81 PB2/D2 (io), 82 P30/D8 (io), 83 P31/D9 (io), 84 P32/D10 (io), 85 P33/D11 (io), 86 P34/D12 (io), 87 P35/D13 (io), 88 P36/D14 (io), 89 P37/D15 (io), 90 PB1/D1 (io), 91 PB0/D0 (io), 93 P80 (io), 94 P81 (io), 95 P82 (io), 96 P83 (io), 97 P84/~{IRQ3}/TXD1 (io), 98 P85/~{IRQ4}/RXD1 (io), 99 P86/~{IRQ5}/SCK1 (io), 100 ~{RESO} (out)
part B pins: 4 VCC1 (power), 9 VCC2(VCL) (power), 15 VSS (power), 37 AVCC (power), 46 AVSS (power), 59 VCC1 (power), 70 VSS (power), 71 VSS (power), 92 VSS (power)

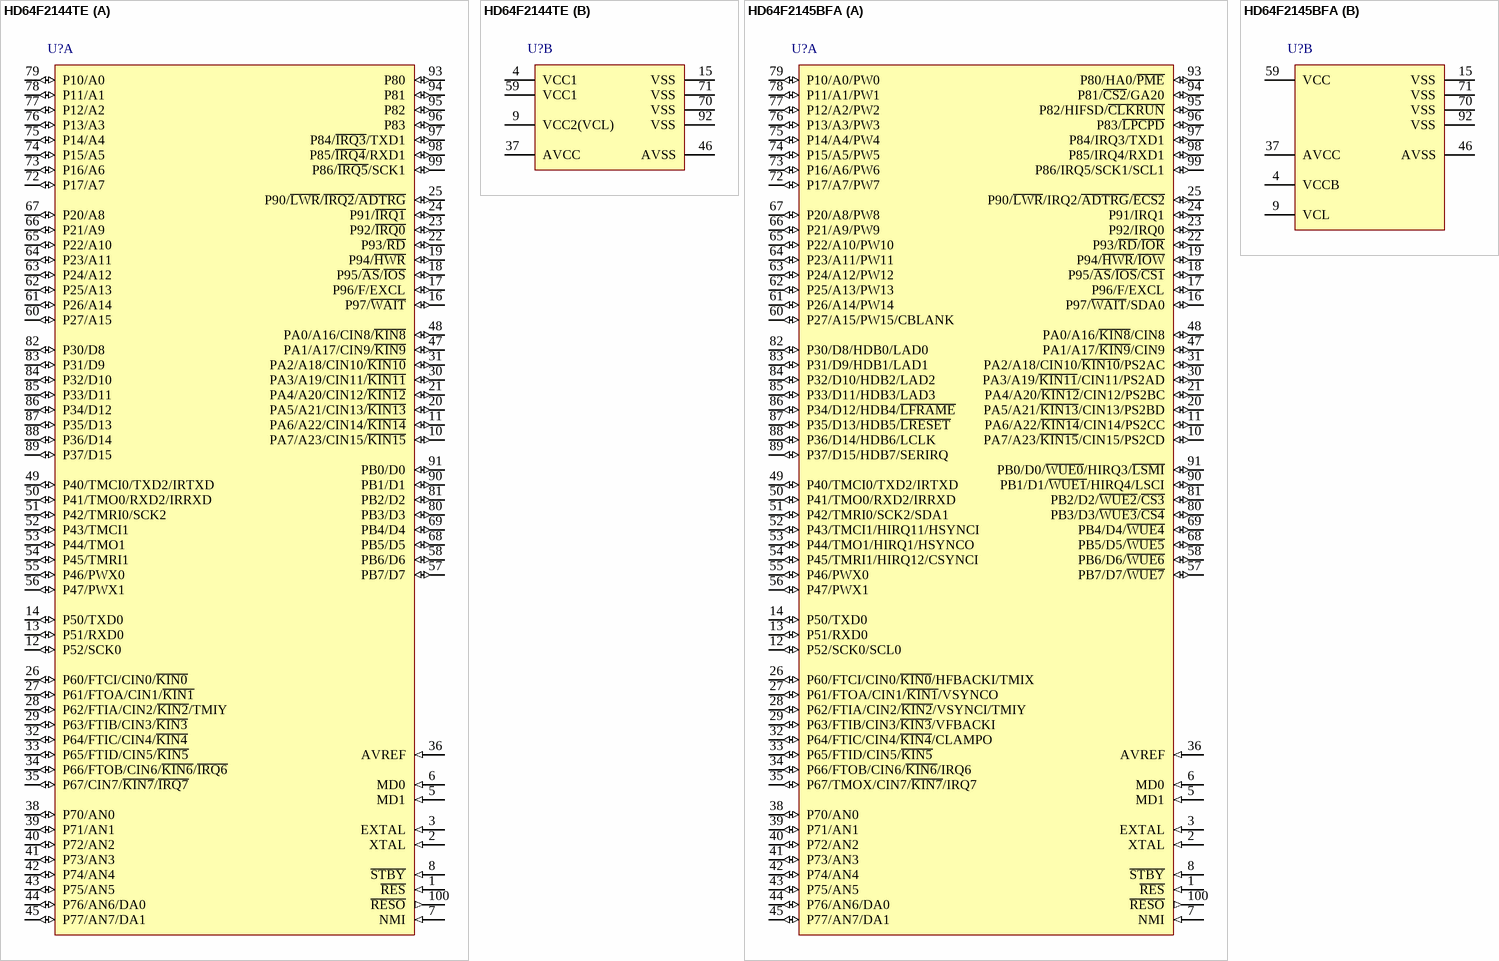
[diagram p11: symbols HD64F2144TE to HD64F2145BFA]

## HD64F2144TE
designator U?
Flash memory H8S/2100 Series, 2144 Group MCU, 128K ROM, 4K RAM, TFP-100B Pkg; Published: 28-Aug-2009; DatasheetVersion: Rev.4.00, Sep-2006; PackageVersion: Sep-2005; PackageReference: PTQP0100KA-A; Publisher: Altium Limited; PackageDescription: 100-Pin Plastic Thin Quad Flat Pack, 14 x 14 x 1.0 mm Body, 0.5 mm Pitch; Code_JEITA: P-TQFP100-14x14-0.50; ComponentLink1Description: Manufacturer Link; ComponentLink1URL: http://sg.renesas.com/fmwk.jsp?cnt=h8s_family_landing.jsp&fp=/products/mpumcu/h8s_family/; ComponentLink2Description: Datasheet; ComponentLink2URL: http://documentation.renesas.com/eng/products/mpumcu/rej09b0327_2148hm.pdf; ComponentLink3Description: Packaging Specification; ComponentLink3URL: http://sg.renesas.com/media/products/common_info/package/pdf/ic/code/ptqp0100ka_a.pdf
footprint PTQP0100KA-A_N (Thin QFP, 100-Leads, Body 14x14mm, Pitch 0.5mm, IPC Medium Density)
footprint PTQP0100KA-A_L (Thin QFP, 100-Leads, Body 14x14mm, Pitch 0.5mm, IPC High Density)
footprint PTQP0100KA-A_M (Thin QFP, 100-Leads, Body 14x14mm, Pitch 0.5mm, IPC Low Density)
part A pins: 1 ~{RES} (in), 2 XTAL (in), 3 EXTAL (in), 5 MD1 (in), 6 MD0 (in), 7 NMI (in), 8 ~{STBY} (in), 10 PA7/A23/CIN15/~{KIN15} (io), 11 PA6/A22/CIN14/~{KIN14} (io), 12 P52/SCK0 (io), 13 P51/RXD0 (io), 14 P50/TXD0 (io), 16 P97/~{WAIT} (io), 17 P96/F/EXCL (io), 18 P95/~{AS}/~{IOS} (io), 19 P94/~{HWR} (io), 20 PA5/A21/CIN13/~{KIN13} (io), 21 PA4/A20/CIN12/~{KIN12} (io), 22 P93/~{RD} (io), 23 P92/~{IRQ0} (io), 24 P91/~{IRQ1} (io), 25 P90/~{LWR}/~{IRQ2}/~{ADTRG} (io), 26 P60/FTCI/CIN0/~{KIN0} (io), 27 P61/FTOA/CIN1/~{KIN1} (io), 28 P62/FTIA/CIN2/~{KIN2}/TMIY (io), 29 P63/FTIB/CIN3/~{KIN3} (io), 30 PA3/A19/CIN11/~{KIN11} (io), 31 PA2/A18/CIN10/~{KIN10} (io), 32 P64/FTIC/CIN4/~{KIN4} (io), 33 P65/FTID/CIN5/~{KIN5} (io), 34 P66/FTOB/CIN6/~{KIN6}/~{IRQ6} (io), 35 P67/CIN7/~{KIN7}/~{IRQ7} (io), 36 AVREF (in), 38 P70/AN0 (io), 39 P71/AN1 (io), 40 P72/AN2 (io), 41 P73/AN3 (io), 42 P74/AN4 (io), 43 P75/AN5 (io), 44 P76/AN6/DA0 (io), 45 P77/AN7/DA1 (io), 47 PA1/A17/CIN9/~{KIN9} (io), 48 PA0/A16/CIN8/~{KIN8} (io), 49 P40/TMCI0/TXD2/IRTXD (io), 50 P41/TMO0/RXD2/IRRXD (io), 51 P42/TMRI0/SCK2 (io), 52 P43/TMCI1 (io), 53 P44/TMO1 (io), 54 P45/TMRI1 (io), 55 P46/PWX0 (io), 56 P47/PWX1 (io), 57 PB7/D7 (io), 58 PB6/D6 (io), 60 P27/A15 (io), 61 P26/A14 (io), 62 P25/A13 (io), 63 P24/A12 (io), 64 P23/A11 (io), 65 P22/A10 (io), 66 P21/A9 (io), 67 P20/A8 (io), 68 PB5/D5 (io), 69 PB4/D4 (io), 72 P17/A7 (io), 73 P16/A6 (io), 74 P15/A5 (io), 75 P14/A4 (io), 76 P13/A3 (io), 77 P12/A2 (io), 78 P11/A1 (io), 79 P10/A0 (io), 80 PB3/D3 (io), 81 PB2/D2 (io), 82 P30/D8 (io), 83 P31/D9 (io), 84 P32/D10 (io), 85 P33/D11 (io), 86 P34/D12 (io), 87 P35/D13 (io), 88 P36/D14 (io), 89 P37/D15 (io), 90 PB1/D1 (io), 91 PB0/D0 (io), 93 P80 (io), 94 P81 (io), 95 P82 (io), 96 P83 (io), 97 P84/~{IRQ3}/TXD1 (io), 98 P85/~{IRQ4}/RXD1 (io), 99 P86/~{IRQ5}/SCK1 (io), 100 ~{RESO} (out)
part B pins: 4 VCC1 (power), 9 VCC2(VCL) (power), 15 VSS (power), 37 AVCC (power), 46 AVSS (power), 59 VCC1 (power), 70 VSS (power), 71 VSS (power), 92 VSS (power)

## HD64F2145BFA
designator U?
Flash memory H8S/2100 Series, 2140B Group MCU, 256K ROM, 8K RAM, FP-100B Pkg; Published: 28-Aug-2009; DatasheetVersion: Rev.3.00, Mar-2006; PackageVersion: Sep-2009; PackageReference: PRQP0100KA-A; Publisher: Altium Limited; PackageDescription: 100-Pin Plastic Quad Flat Pack, 14 x 14 x 2.7 mm Body, 0.5 mm Pitch; Code_JEITA: P-QFP100-14x14-0.50; ComponentLink1Description: Manufacturer Link; ComponentLink1URL: http://sg.renesas.com/fmwk.jsp?cnt=h8s_family_landing.jsp&fp=/products/mpumcu/h8s_family/; ComponentLink2Description: Datasheet; ComponentLink2URL: http://documentation.renesas.com/eng/products/mpumcu/rej09b0300_2140bhm.pdf; ComponentLink3Description: Packaging Specification; ComponentLink3URL: http://sg.renesas.com/media/products/common_info/package/pdf/ic/code/prqp0100ka_a.pdf
footprint PRQP0100KA-A_N (Shrink QFP, 100-Leads, Body 14x14mm, Pitch 0.5mm, IPC Medium Density)
footprint PRQP0100KA-A_L (Shrink QFP, 100-Leads, Body 14x14mm, Pitch 0.5mm, IPC High Density)
footprint PRQP0100KA-A_M (Shrink QFP, 100-Leads, Body 14x14mm, Pitch 0.5mm, IPC Low Density)
part A pins: 1 ~{RES} (in), 2 XTAL (in), 3 EXTAL (in), 5 MD1 (in), 6 MD0 (in), 7 NMI (in), 8 ~{STBY} (in), 10 PA7/A23/~{KIN15}/CIN15/PS2CD (io), 11 PA6/A22/~{KIN14}/CIN14/PS2CC (io), 12 P52/SCK0/SCL0 (io), 13 P51/RXD0 (io), 14 P50/TXD0 (io), 16 P97/~{WAIT}/SDA0 (io), 17 P96/F/EXCL (io), 18 P95/~{AS}/~{IOS}/~{CS1} (io), 19 P94/~{HWR}/~{IOW} (io), 20 PA5/A21/~{KIN13}/CIN13/PS2BD (io), 21 PA4/A20/~{KIN12}/CIN12/PS2BC (io), 22 P93/~{RD}/~{IOR} (io), 23 P92/IRQ0 (io), 24 P91/IRQ1 (io), 25 P90/~{LWR}/IRQ2/~{ADTRG}/~{ECS2} (io), 26 P60/FTCI/CIN0/~{KIN0}/HFBACKI/TMIX (io), 27 P61/FTOA/CIN1/~{KIN1}/VSYNCO (io), 28 P62/FTIA/CIN2/~{KIN2}/VSYNCI/TMIY (io), 29 P63/FTIB/CIN3/~{KIN3}/VFBACKI (io), 30 PA3/A19/~{KIN11}/CIN11/PS2AD (io), 31 PA2/A18/CIN10/~{KIN10}/PS2AC (io), 32 P64/FTIC/CIN4/~{KIN4}/CLAMPO (io), 33 P65/FTID/CIN5/~{KIN5} (io), 34 P66/FTOB/CIN6/~{KIN6}/IRQ6 (io), 35 P67/TMOX/CIN7/~{KIN7}/IRQ7 (io), 36 AVREF (in), 38 P70/AN0 (io), 39 P71/AN1 (io), 40 P72/AN2 (io), 41 P73/AN3 (io), 42 P74/AN4 (io), 43 P75/AN5 (io), 44 P76/AN6/DA0 (io), 45 P77/AN7/DA1 (io), 47 PA1/A17/~{KIN9}/CIN9 (io), 48 PA0/A16/~{KIN8}/CIN8 (io), 49 P40/TMCI0/TXD2/IRTXD (io), 50 P41/TMO0/RXD2/IRRXD (io), 51 P42/TMRI0/SCK2/SDA1 (io), 52 P43/TMCI1/HIRQ11/HSYNCI (io), 53 P44/TMO1/HIRQ1/HSYNCO (io), 54 P45/TMRI1/HIRQ12/CSYNCI (io), 55 P46/PWX0 (io), 56 P47/PWX1 (io), 57 PB7/D7/~{WUE7} (io), 58 PB6/D6/~{WUE6} (io), 60 P27/A15/PW15/CBLANK (io), 61 P26/A14/PW14 (io), 62 P25/A13/PW13 (io), 63 P24/A12/PW12 (io), 64 P23/A11/PW11 (io), 65 P22/A10/PW10 (io), 66 P21/A9/PW9 (io), 67 P20/A8/PW8 (io), 68 PB5/D5/~{WUE5} (io), 69 PB4/D4/~{WUE4} (io), 72 P17/A7/PW7 (io), 73 P16/A6/PW6 (io), 74 P15/A5/PW5 (io), 75 P14/A4/PW4 (io), 76 P13/A3/PW3 (io), 77 P12/A2/PW2 (io), 78 P11/A1/PW1 (io), 79 P10/A0/PW0 (io), 80 PB3/D3/~{WUE3}/~{CS4} (io), 81 PB2/D2/~{WUE2}/~{CS3} (io), 82 P30/D8/HDB0/LAD0 (io), 83 P31/D9/HDB1/LAD1 (io), 84 P32/D10/HDB2/LAD2 (io), 85 P33/D11/HDB3/LAD3 (io), 86 P34/D12/HDB4/~{LFRAME} (io), 87 P35/D13/HDB5/~{LRESET} (io), 88 P36/D14/HDB6/LCLK (io), 89 P37/D15/HDB7/SERIRQ (io), 90 PB1/D1/~{WUE1}/HIRQ4/LSCI (io), 91 PB0/D0/~{WUE0}/HIRQ3/~{LSMI} (io), 93 P80/HA0/~{PME} (io), 94 P81/~{CS2}/GA20 (io), 95 P82/HIFSD/~{CLKRUN} (io), 96 P83/~{LPCPD} (io), 97 P84/IRQ3/TXD1 (io), 98 P85/IRQ4/RXD1 (io), 99 P86/IRQ5/SCK1/SCL1 (io), 100 ~{RESO} (out)
part B pins: 4 VCCB (power), 9 VCL, 15 VSS (power), 37 AVCC (power), 46 AVSS (power), 59 VCC (power), 70 VSS (power), 71 VSS (power), 92 VSS (power)

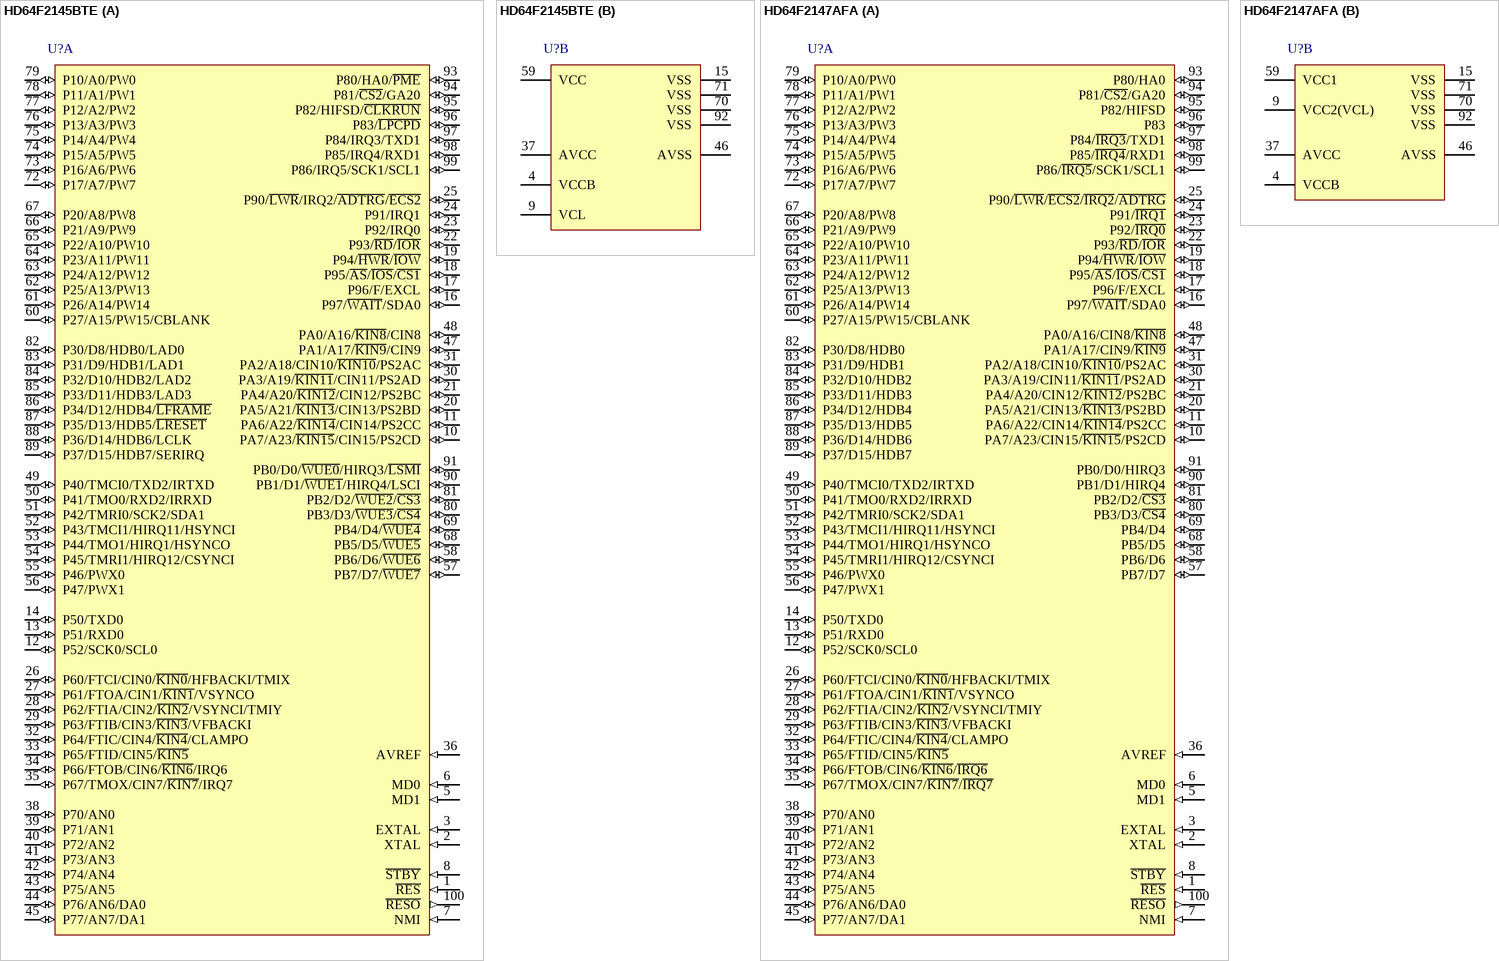
[diagram p12: symbols HD64F2145BTE to HD64F2147AFA]

## HD64F2145BTE
designator U?
Flash memory H8S/2100 Series, 2140B Group MCU, 256K ROM, 8K RAM, TFP-100B Pkg; Published: 28-Aug-2009; DatasheetVersion: Rev.3.00, Mar-2006; PackageVersion: Sep-2005; PackageReference: PTQP0100KA-A; Publisher: Altium Limited; PackageDescription: 100-Pin Plastic Thin Quad Flat Pack, 14 x 14 x 1.0 mm Body, 0.5 mm Pitch; Code_JEITA: P-TQFP100-14x14-0.50; ComponentLink1Description: Manufacturer Link; ComponentLink1URL: http://sg.renesas.com/fmwk.jsp?cnt=h8s_family_landing.jsp&fp=/products/mpumcu/h8s_family/; ComponentLink2Description: Datasheet; ComponentLink2URL: http://documentation.renesas.com/eng/products/mpumcu/rej09b0300_2140bhm.pdf; ComponentLink3Description: Packaging Specification; ComponentLink3URL: http://sg.renesas.com/media/products/common_info/package/pdf/ic/code/ptqp0100ka_a.pdf
footprint PTQP0100KA-A_N (Thin QFP, 100-Leads, Body 14x14mm, Pitch 0.5mm, IPC Medium Density)
footprint PTQP0100KA-A_L (Thin QFP, 100-Leads, Body 14x14mm, Pitch 0.5mm, IPC High Density)
footprint PTQP0100KA-A_M (Thin QFP, 100-Leads, Body 14x14mm, Pitch 0.5mm, IPC Low Density)
part A pins: 1 ~{RES} (in), 2 XTAL (in), 3 EXTAL (in), 5 MD1 (in), 6 MD0 (in), 7 NMI (in), 8 ~{STBY} (in), 10 PA7/A23/~{KIN15}/CIN15/PS2CD (io), 11 PA6/A22/~{KIN14}/CIN14/PS2CC (io), 12 P52/SCK0/SCL0 (io), 13 P51/RXD0 (io), 14 P50/TXD0 (io), 16 P97/~{WAIT}/SDA0 (io), 17 P96/F/EXCL (io), 18 P95/~{AS}/~{IOS}/~{CS1} (io), 19 P94/~{HWR}/~{IOW} (io), 20 PA5/A21/~{KIN13}/CIN13/PS2BD (io), 21 PA4/A20/~{KIN12}/CIN12/PS2BC (io), 22 P93/~{RD}/~{IOR} (io), 23 P92/IRQ0 (io), 24 P91/IRQ1 (io), 25 P90/~{LWR}/IRQ2/~{ADTRG}/~{ECS2} (io), 26 P60/FTCI/CIN0/~{KIN0}/HFBACKI/TMIX (io), 27 P61/FTOA/CIN1/~{KIN1}/VSYNCO (io), 28 P62/FTIA/CIN2/~{KIN2}/VSYNCI/TMIY (io), 29 P63/FTIB/CIN3/~{KIN3}/VFBACKI (io), 30 PA3/A19/~{KIN11}/CIN11/PS2AD (io), 31 PA2/A18/CIN10/~{KIN10}/PS2AC (io), 32 P64/FTIC/CIN4/~{KIN4}/CLAMPO (io), 33 P65/FTID/CIN5/~{KIN5} (io), 34 P66/FTOB/CIN6/~{KIN6}/IRQ6 (io), 35 P67/TMOX/CIN7/~{KIN7}/IRQ7 (io), 36 AVREF (in), 38 P70/AN0 (io), 39 P71/AN1 (io), 40 P72/AN2 (io), 41 P73/AN3 (io), 42 P74/AN4 (io), 43 P75/AN5 (io), 44 P76/AN6/DA0 (io), 45 P77/AN7/DA1 (io), 47 PA1/A17/~{KIN9}/CIN9 (io), 48 PA0/A16/~{KIN8}/CIN8 (io), 49 P40/TMCI0/TXD2/IRTXD (io), 50 P41/TMO0/RXD2/IRRXD (io), 51 P42/TMRI0/SCK2/SDA1 (io), 52 P43/TMCI1/HIRQ11/HSYNCI (io), 53 P44/TMO1/HIRQ1/HSYNCO (io), 54 P45/TMRI1/HIRQ12/CSYNCI (io), 55 P46/PWX0 (io), 56 P47/PWX1 (io), 57 PB7/D7/~{WUE7} (io), 58 PB6/D6/~{WUE6} (io), 60 P27/A15/PW15/CBLANK (io), 61 P26/A14/PW14 (io), 62 P25/A13/PW13 (io), 63 P24/A12/PW12 (io), 64 P23/A11/PW11 (io), 65 P22/A10/PW10 (io), 66 P21/A9/PW9 (io), 67 P20/A8/PW8 (io), 68 PB5/D5/~{WUE5} (io), 69 PB4/D4/~{WUE4} (io), 72 P17/A7/PW7 (io), 73 P16/A6/PW6 (io), 74 P15/A5/PW5 (io), 75 P14/A4/PW4 (io), 76 P13/A3/PW3 (io), 77 P12/A2/PW2 (io), 78 P11/A1/PW1 (io), 79 P10/A0/PW0 (io), 80 PB3/D3/~{WUE3}/~{CS4} (io), 81 PB2/D2/~{WUE2}/~{CS3} (io), 82 P30/D8/HDB0/LAD0 (io), 83 P31/D9/HDB1/LAD1 (io), 84 P32/D10/HDB2/LAD2 (io), 85 P33/D11/HDB3/LAD3 (io), 86 P34/D12/HDB4/~{LFRAME} (io), 87 P35/D13/HDB5/~{LRESET} (io), 88 P36/D14/HDB6/LCLK (io), 89 P37/D15/HDB7/SERIRQ (io), 90 PB1/D1/~{WUE1}/HIRQ4/LSCI (io), 91 PB0/D0/~{WUE0}/HIRQ3/~{LSMI} (io), 93 P80/HA0/~{PME} (io), 94 P81/~{CS2}/GA20 (io), 95 P82/HIFSD/~{CLKRUN} (io), 96 P83/~{LPCPD} (io), 97 P84/IRQ3/TXD1 (io), 98 P85/IRQ4/RXD1 (io), 99 P86/IRQ5/SCK1/SCL1 (io), 100 ~{RESO} (out)
part B pins: 4 VCCB (power), 9 VCL, 15 VSS (power), 37 AVCC (power), 46 AVSS (power), 59 VCC (power), 70 VSS (power), 71 VSS (power), 92 VSS (power)

## HD64F2147AFA
designator U?
Flash memory H8S/2100 Series, 2148 Group MCU, 64K ROM, 2K RAM, FP-100B Pkg; Published: 28-Aug-2009; DatasheetVersion: Rev.4.00, Sep-2006; PackageVersion: Sep-2009; PackageReference: PRQP0100KA-A; Publisher: Altium Limited; PackageDescription: 100-Pin Plastic Quad Flat Pack, 14 x 14 x 2.7 mm Body, 0.5 mm Pitch; Code_JEITA: P-QFP100-14x14-0.50; ComponentLink1Description: Manufacturer Link; ComponentLink1URL: http://sg.renesas.com/fmwk.jsp?cnt=h8s_family_landing.jsp&fp=/products/mpumcu/h8s_family/; ComponentLink2Description: Datasheet; ComponentLink2URL: http://documentation.renesas.com/eng/products/mpumcu/rej09b0327_2148hm.pdf; ComponentLink3Description: Packaging Specification; ComponentLink3URL: http://sg.renesas.com/media/products/common_info/package/pdf/ic/code/prqp0100ka_a.pdf
footprint PRQP0100KA-A_N (Shrink QFP, 100-Leads, Body 14x14mm, Pitch 0.5mm, IPC Medium Density)
footprint PRQP0100KA-A_L (Shrink QFP, 100-Leads, Body 14x14mm, Pitch 0.5mm, IPC High Density)
footprint PRQP0100KA-A_M (Shrink QFP, 100-Leads, Body 14x14mm, Pitch 0.5mm, IPC Low Density)
part A pins: 1 ~{RES} (in), 2 XTAL (in), 3 EXTAL (in), 5 MD1 (in), 6 MD0 (in), 7 NMI (in), 8 ~{STBY} (in), 10 PA7/A23/CIN15/~{KIN15}/PS2CD (io), 11 PA6/A22/CIN14/~{KIN14}/PS2CC (io), 12 P52/SCK0/SCL0 (io), 13 P51/RXD0 (io), 14 P50/TXD0 (io), 16 P97/~{WAIT}/SDA0 (io), 17 P96/F/EXCL (io), 18 P95/~{AS}/~{IOS}/~{CS1} (io), 19 P94/~{HWR}/~{IOW} (io), 20 PA5/A21/CIN13/~{KIN13}/PS2BD (io), 21 PA4/A20/CIN12/~{KIN12}/PS2BC (io), 22 P93/~{RD}/~{IOR} (io), 23 P92/~{IRQ0} (io), 24 P91/~{IRQ1} (io), 25 P90/~{LWR}/~{ECS2}/~{IRQ2}/~{ADTRG} (io), 26 P60/FTCI/CIN0/~{KIN0}/HFBACKI/TMIX (io), 27 P61/FTOA/CIN1/~{KIN1}/VSYNCO (io), 28 P62/FTIA/CIN2/~{KIN2}/VSYNCI/TMIY (io), 29 P63/FTIB/CIN3/~{KIN3}/VFBACKI (io), 30 PA3/A19/CIN11/~{KIN11}/PS2AD (io), 31 PA2/A18/CIN10/~{KIN10}/PS2AC (io), 32 P64/FTIC/CIN4/~{KIN4}/CLAMPO (io), 33 P65/FTID/CIN5/~{KIN5} (io), 34 P66/FTOB/CIN6/~{KIN6}/~{IRQ6} (io), 35 P67/TMOX/CIN7/~{KIN7}/~{IRQ7} (io), 36 AVREF (in), 38 P70/AN0 (io), 39 P71/AN1 (io), 40 P72/AN2 (io), 41 P73/AN3 (io), 42 P74/AN4 (io), 43 P75/AN5 (io), 44 P76/AN6/DA0 (io), 45 P77/AN7/DA1 (io), 47 PA1/A17/CIN9/~{KIN9} (io), 48 PA0/A16/CIN8/~{KIN8} (io), 49 P40/TMCI0/TXD2/IRTXD (io), 50 P41/TMO0/RXD2/IRRXD (io), 51 P42/TMRI0/SCK2/SDA1 (io), 52 P43/TMCI1/HIRQ11/HSYNCI (io), 53 P44/TMO1/HIRQ1/HSYNCO (io), 54 P45/TMRI1/HIRQ12/CSYNCI (io), 55 P46/PWX0 (io), 56 P47/PWX1 (io), 57 PB7/D7 (io), 58 PB6/D6 (io), 60 P27/A15/PW15/CBLANK (io), 61 P26/A14/PW14 (io), 62 P25/A13/PW13 (io), 63 P24/A12/PW12 (io), 64 P23/A11/PW11 (io), 65 P22/A10/PW10 (io), 66 P21/A9/PW9 (io), 67 P20/A8/PW8 (io), 68 PB5/D5 (io), 69 PB4/D4 (io), 72 P17/A7/PW7 (io), 73 P16/A6/PW6 (io), 74 P15/A5/PW5 (io), 75 P14/A4/PW4 (io), 76 P13/A3/PW3 (io), 77 P12/A2/PW2 (io), 78 P11/A1/PW1 (io), 79 P10/A0/PW0 (io), 80 PB3/D3/~{CS4} (io), 81 PB2/D2/~{CS3} (io), 82 P30/D8/HDB0 (io), 83 P31/D9/HDB1 (io), 84 P32/D10/HDB2 (io), 85 P33/D11/HDB3 (io), 86 P34/D12/HDB4 (io), 87 P35/D13/HDB5 (io), 88 P36/D14/HDB6 (io), 89 P37/D15/HDB7 (io), 90 PB1/D1/HIRQ4 (io), 91 PB0/D0/HIRQ3 (io), 93 P80/HA0 (io), 94 P81/~{CS2}/GA20 (io), 95 P82/HIFSD (io), 96 P83 (io), 97 P84/~{IRQ3}/TXD1 (io), 98 P85/~{IRQ4}/RXD1 (io), 99 P86/~{IRQ5}/SCK1/SCL1 (io), 100 ~{RESO} (out)
part B pins: 4 VCCB (power), 9 VCC2(VCL), 15 VSS (power), 37 AVCC (power), 46 AVSS (power), 59 VCC1 (power), 70 VSS (power), 71 VSS (power), 92 VSS (power)

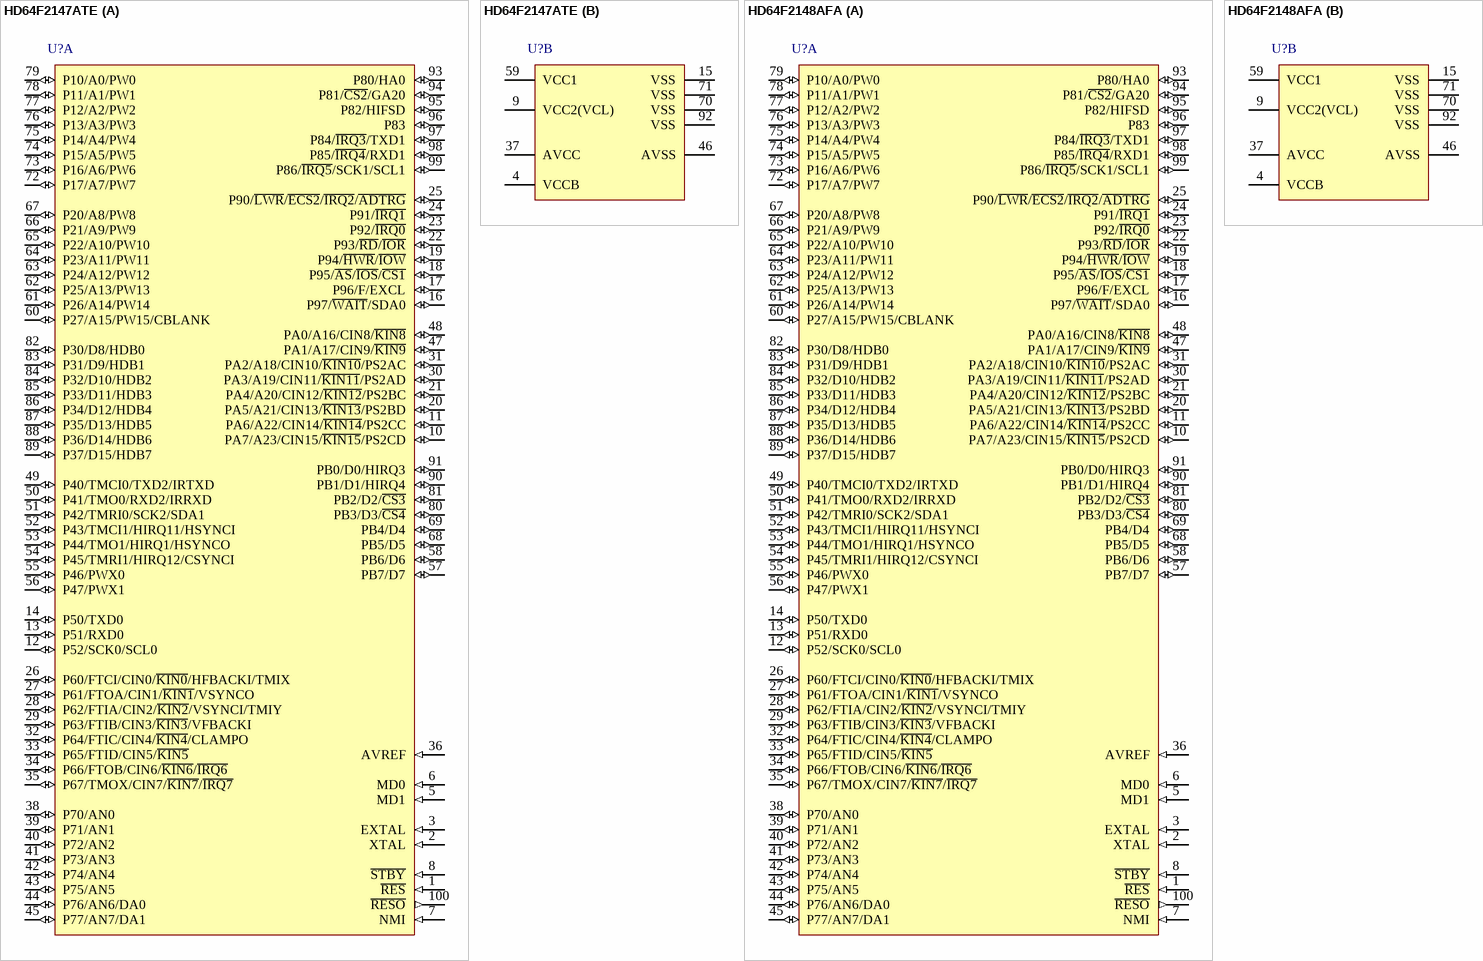
[diagram p13: symbols HD64F2147ATE to HD64F2148AFA]

## HD64F2147ATE
designator U?
Flash memory H8S/2100 Series, 2148 Group MCU, 64K ROM, 2K RAM, FP-100B Pkg; Published: 28-Aug-2009; DatasheetVersion: Rev.4.00, Sep-2006; PackageVersion: Sep-2009; PackageReference: PRQP0100KA-A; Publisher: Altium Limited; PackageDescription: 100-Pin Plastic Quad Flat Pack, 14 x 14 x 2.7 mm Body, 0.5 mm Pitch; Code_JEITA: P-QFP100-14x14-0.50; ComponentLink1Description: Manufacturer Link; ComponentLink1URL: http://sg.renesas.com/fmwk.jsp?cnt=h8s_family_landing.jsp&fp=/products/mpumcu/h8s_family/; ComponentLink2Description: Datasheet; ComponentLink2URL: http://documentation.renesas.com/eng/products/mpumcu/rej09b0327_2148hm.pdf; ComponentLink3Description: Packaging Specification; ComponentLink3URL: http://sg.renesas.com/media/products/common_info/package/pdf/ic/code/prqp0100ka_a.pdf
footprint PRQP0100KA-A_N (Shrink QFP, 100-Leads, Body 14x14mm, Pitch 0.5mm, IPC Medium Density)
footprint PRQP0100KA-A_L (Shrink QFP, 100-Leads, Body 14x14mm, Pitch 0.5mm, IPC High Density)
footprint PRQP0100KA-A_M (Shrink QFP, 100-Leads, Body 14x14mm, Pitch 0.5mm, IPC Low Density)
part A pins: 1 ~{RES} (in), 2 XTAL (in), 3 EXTAL (in), 5 MD1 (in), 6 MD0 (in), 7 NMI (in), 8 ~{STBY} (in), 10 PA7/A23/CIN15/~{KIN15}/PS2CD (io), 11 PA6/A22/CIN14/~{KIN14}/PS2CC (io), 12 P52/SCK0/SCL0 (io), 13 P51/RXD0 (io), 14 P50/TXD0 (io), 16 P97/~{WAIT}/SDA0 (io), 17 P96/F/EXCL (io), 18 P95/~{AS}/~{IOS}/~{CS1} (io), 19 P94/~{HWR}/~{IOW} (io), 20 PA5/A21/CIN13/~{KIN13}/PS2BD (io), 21 PA4/A20/CIN12/~{KIN12}/PS2BC (io), 22 P93/~{RD}/~{IOR} (io), 23 P92/~{IRQ0} (io), 24 P91/~{IRQ1} (io), 25 P90/~{LWR}/~{ECS2}/~{IRQ2}/~{ADTRG} (io), 26 P60/FTCI/CIN0/~{KIN0}/HFBACKI/TMIX (io), 27 P61/FTOA/CIN1/~{KIN1}/VSYNCO (io), 28 P62/FTIA/CIN2/~{KIN2}/VSYNCI/TMIY (io), 29 P63/FTIB/CIN3/~{KIN3}/VFBACKI (io), 30 PA3/A19/CIN11/~{KIN11}/PS2AD (io), 31 PA2/A18/CIN10/~{KIN10}/PS2AC (io), 32 P64/FTIC/CIN4/~{KIN4}/CLAMPO (io), 33 P65/FTID/CIN5/~{KIN5} (io), 34 P66/FTOB/CIN6/~{KIN6}/~{IRQ6} (io), 35 P67/TMOX/CIN7/~{KIN7}/~{IRQ7} (io), 36 AVREF (in), 38 P70/AN0 (io), 39 P71/AN1 (io), 40 P72/AN2 (io), 41 P73/AN3 (io), 42 P74/AN4 (io), 43 P75/AN5 (io), 44 P76/AN6/DA0 (io), 45 P77/AN7/DA1 (io), 47 PA1/A17/CIN9/~{KIN9} (io), 48 PA0/A16/CIN8/~{KIN8} (io), 49 P40/TMCI0/TXD2/IRTXD (io), 50 P41/TMO0/RXD2/IRRXD (io), 51 P42/TMRI0/SCK2/SDA1 (io), 52 P43/TMCI1/HIRQ11/HSYNCI (io), 53 P44/TMO1/HIRQ1/HSYNCO (io), 54 P45/TMRI1/HIRQ12/CSYNCI (io), 55 P46/PWX0 (io), 56 P47/PWX1 (io), 57 PB7/D7 (io), 58 PB6/D6 (io), 60 P27/A15/PW15/CBLANK (io), 61 P26/A14/PW14 (io), 62 P25/A13/PW13 (io), 63 P24/A12/PW12 (io), 64 P23/A11/PW11 (io), 65 P22/A10/PW10 (io), 66 P21/A9/PW9 (io), 67 P20/A8/PW8 (io), 68 PB5/D5 (io), 69 PB4/D4 (io), 72 P17/A7/PW7 (io), 73 P16/A6/PW6 (io), 74 P15/A5/PW5 (io), 75 P14/A4/PW4 (io), 76 P13/A3/PW3 (io), 77 P12/A2/PW2 (io), 78 P11/A1/PW1 (io), 79 P10/A0/PW0 (io), 80 PB3/D3/~{CS4} (io), 81 PB2/D2/~{CS3} (io), 82 P30/D8/HDB0 (io), 83 P31/D9/HDB1 (io), 84 P32/D10/HDB2 (io), 85 P33/D11/HDB3 (io), 86 P34/D12/HDB4 (io), 87 P35/D13/HDB5 (io), 88 P36/D14/HDB6 (io), 89 P37/D15/HDB7 (io), 90 PB1/D1/HIRQ4 (io), 91 PB0/D0/HIRQ3 (io), 93 P80/HA0 (io), 94 P81/~{CS2}/GA20 (io), 95 P82/HIFSD (io), 96 P83 (io), 97 P84/~{IRQ3}/TXD1 (io), 98 P85/~{IRQ4}/RXD1 (io), 99 P86/~{IRQ5}/SCK1/SCL1 (io), 100 ~{RESO} (out)
part B pins: 4 VCCB (power), 9 VCC2(VCL), 15 VSS (power), 37 AVCC (power), 46 AVSS (power), 59 VCC1 (power), 70 VSS (power), 71 VSS (power), 92 VSS (power)

## HD64F2148AFA
designator U?
Flash memory H8S/2100 Series, 2148 Group MCU, 128K ROM, 4K RAM, FP-100B Pkg; Published: 28-Aug-2009; DatasheetVersion: Rev.4.00, Sep-2006; PackageVersion: Sep-2009; PackageReference: PRQP0100KA-A; Publisher: Altium Limited; PackageDescription: 100-Pin Plastic Quad Flat Pack, 14 x 14 x 2.7 mm Body, 0.5 mm Pitch; Code_JEITA: P-QFP100-14x14-0.50; ComponentLink1Description: Manufacturer Link; ComponentLink1URL: http://sg.renesas.com/fmwk.jsp?cnt=h8s_family_landing.jsp&fp=/products/mpumcu/h8s_family/; ComponentLink2Description: Datasheet; ComponentLink2URL: http://documentation.renesas.com/eng/products/mpumcu/rej09b0327_2148hm.pdf; ComponentLink3Description: Packaging Specification; ComponentLink3URL: http://sg.renesas.com/media/products/common_info/package/pdf/ic/code/prqp0100ka_a.pdf
footprint PRQP0100KA-A_N (Shrink QFP, 100-Leads, Body 14x14mm, Pitch 0.5mm, IPC Medium Density)
footprint PRQP0100KA-A_L (Shrink QFP, 100-Leads, Body 14x14mm, Pitch 0.5mm, IPC High Density)
footprint PRQP0100KA-A_M (Shrink QFP, 100-Leads, Body 14x14mm, Pitch 0.5mm, IPC Low Density)
part A pins: 1 ~{RES} (in), 2 XTAL (in), 3 EXTAL (in), 5 MD1 (in), 6 MD0 (in), 7 NMI (in), 8 ~{STBY} (in), 10 PA7/A23/CIN15/~{KIN15}/PS2CD (io), 11 PA6/A22/CIN14/~{KIN14}/PS2CC (io), 12 P52/SCK0/SCL0 (io), 13 P51/RXD0 (io), 14 P50/TXD0 (io), 16 P97/~{WAIT}/SDA0 (io), 17 P96/F/EXCL (io), 18 P95/~{AS}/~{IOS}/~{CS1} (io), 19 P94/~{HWR}/~{IOW} (io), 20 PA5/A21/CIN13/~{KIN13}/PS2BD (io), 21 PA4/A20/CIN12/~{KIN12}/PS2BC (io), 22 P93/~{RD}/~{IOR} (io), 23 P92/~{IRQ0} (io), 24 P91/~{IRQ1} (io), 25 P90/~{LWR}/~{ECS2}/~{IRQ2}/~{ADTRG} (io), 26 P60/FTCI/CIN0/~{KIN0}/HFBACKI/TMIX (io), 27 P61/FTOA/CIN1/~{KIN1}/VSYNCO (io), 28 P62/FTIA/CIN2/~{KIN2}/VSYNCI/TMIY (io), 29 P63/FTIB/CIN3/~{KIN3}/VFBACKI (io), 30 PA3/A19/CIN11/~{KIN11}/PS2AD (io), 31 PA2/A18/CIN10/~{KIN10}/PS2AC (io), 32 P64/FTIC/CIN4/~{KIN4}/CLAMPO (io), 33 P65/FTID/CIN5/~{KIN5} (io), 34 P66/FTOB/CIN6/~{KIN6}/~{IRQ6} (io), 35 P67/TMOX/CIN7/~{KIN7}/~{IRQ7} (io), 36 AVREF (in), 38 P70/AN0 (io), 39 P71/AN1 (io), 40 P72/AN2 (io), 41 P73/AN3 (io), 42 P74/AN4 (io), 43 P75/AN5 (io), 44 P76/AN6/DA0 (io), 45 P77/AN7/DA1 (io), 47 PA1/A17/CIN9/~{KIN9} (io), 48 PA0/A16/CIN8/~{KIN8} (io), 49 P40/TMCI0/TXD2/IRTXD (io), 50 P41/TMO0/RXD2/IRRXD (io), 51 P42/TMRI0/SCK2/SDA1 (io), 52 P43/TMCI1/HIRQ11/HSYNCI (io), 53 P44/TMO1/HIRQ1/HSYNCO (io), 54 P45/TMRI1/HIRQ12/CSYNCI (io), 55 P46/PWX0 (io), 56 P47/PWX1 (io), 57 PB7/D7 (io), 58 PB6/D6 (io), 60 P27/A15/PW15/CBLANK (io), 61 P26/A14/PW14 (io), 62 P25/A13/PW13 (io), 63 P24/A12/PW12 (io), 64 P23/A11/PW11 (io), 65 P22/A10/PW10 (io), 66 P21/A9/PW9 (io), 67 P20/A8/PW8 (io), 68 PB5/D5 (io), 69 PB4/D4 (io), 72 P17/A7/PW7 (io), 73 P16/A6/PW6 (io), 74 P15/A5/PW5 (io), 75 P14/A4/PW4 (io), 76 P13/A3/PW3 (io), 77 P12/A2/PW2 (io), 78 P11/A1/PW1 (io), 79 P10/A0/PW0 (io), 80 PB3/D3/~{CS4} (io), 81 PB2/D2/~{CS3} (io), 82 P30/D8/HDB0 (io), 83 P31/D9/HDB1 (io), 84 P32/D10/HDB2 (io), 85 P33/D11/HDB3 (io), 86 P34/D12/HDB4 (io), 87 P35/D13/HDB5 (io), 88 P36/D14/HDB6 (io), 89 P37/D15/HDB7 (io), 90 PB1/D1/HIRQ4 (io), 91 PB0/D0/HIRQ3 (io), 93 P80/HA0 (io), 94 P81/~{CS2}/GA20 (io), 95 P82/HIFSD (io), 96 P83 (io), 97 P84/~{IRQ3}/TXD1 (io), 98 P85/~{IRQ4}/RXD1 (io), 99 P86/~{IRQ5}/SCK1/SCL1 (io), 100 ~{RESO} (out)
part B pins: 4 VCCB (power), 9 VCC2(VCL), 15 VSS (power), 37 AVCC (power), 46 AVSS (power), 59 VCC1 (power), 70 VSS (power), 71 VSS (power), 92 VSS (power)

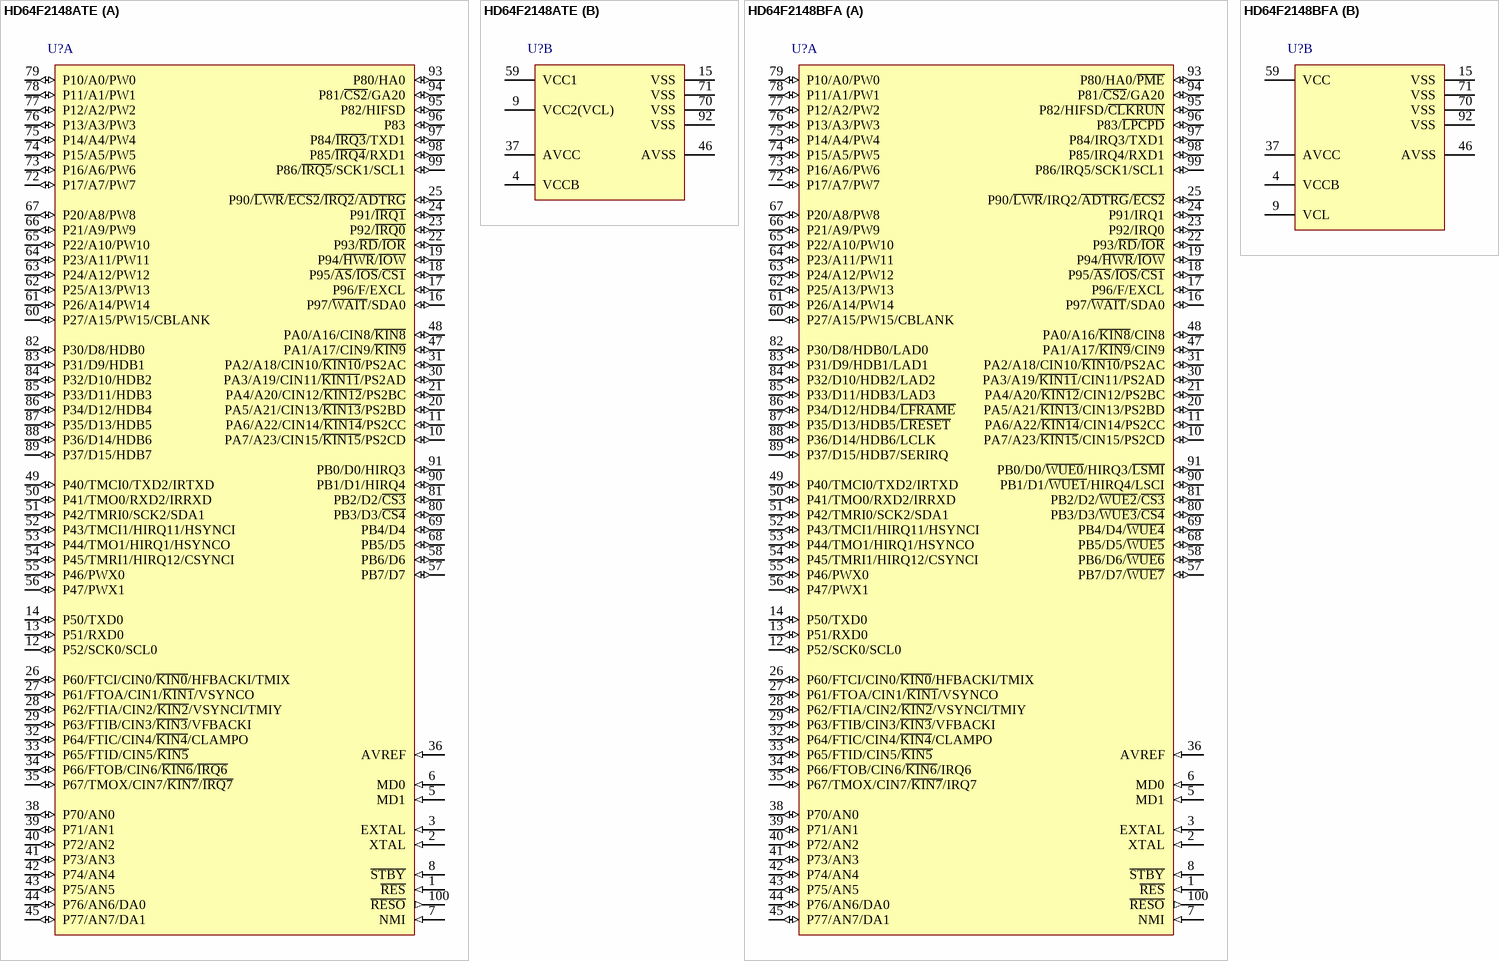
[diagram p14: symbols HD64F2148ATE to HD64F2148BFA]